# Altium schematic symbol library S7CAS_Lib2017.SchLib: 108 symbols (part 1 of 2)
Pins are listed as number, name and electrical type; pins without a type are passive.

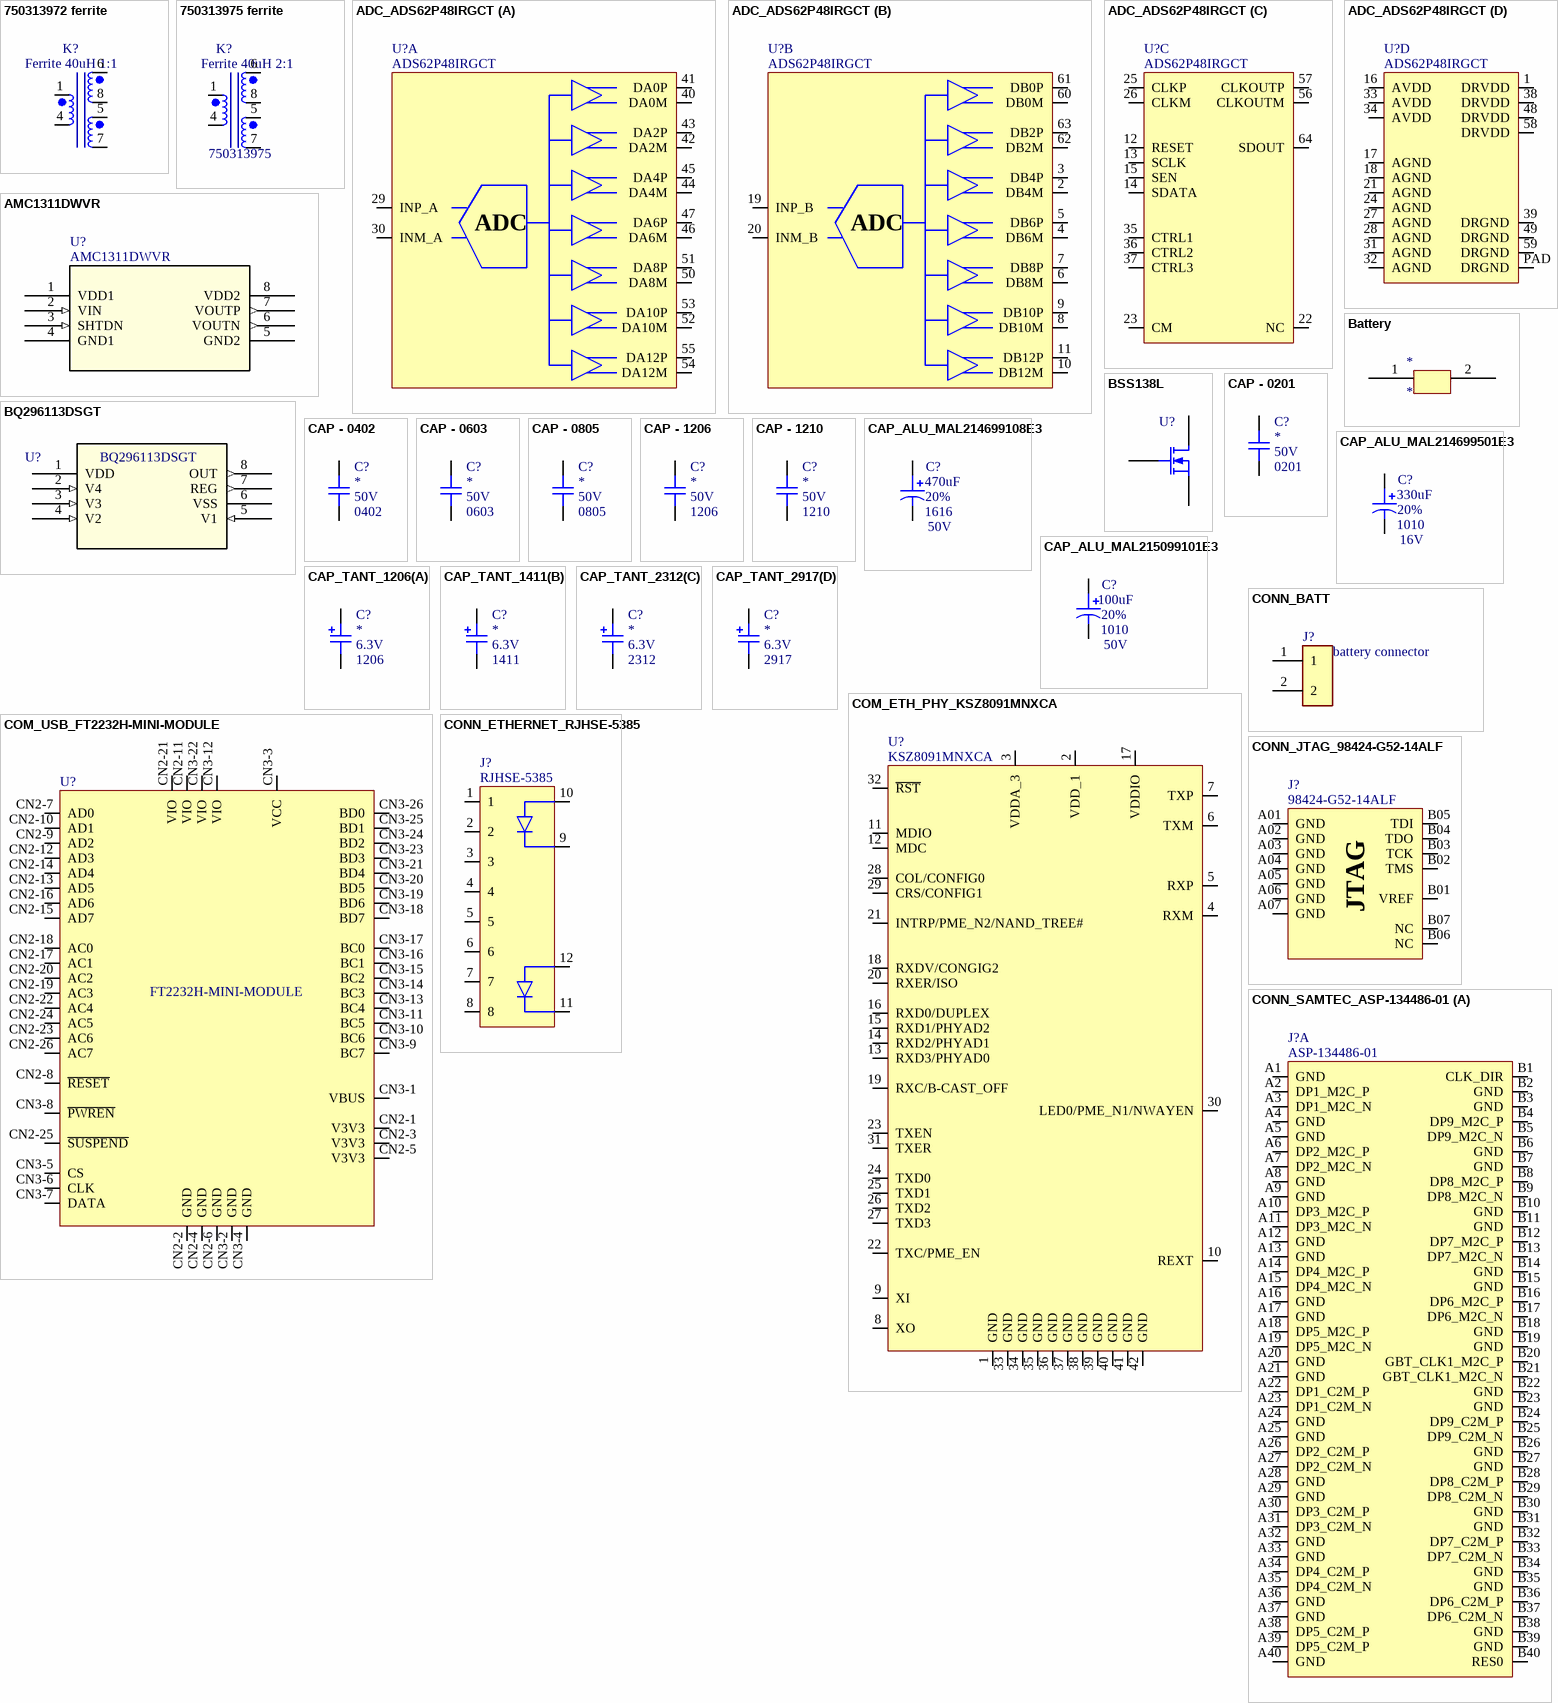
[diagram p0: symbols 750313972 ferrite to CONN_SAMTEC_ASP-134486-01]

## 750313972 ferrite
designator K?, comment value Ferrite 40uH 1:1  (hidden comment: 750313972)
Flyback Converters For For DC/DC Converters SMPS Transformer 1500Vrms Isolation 200 ~ 300kHz Surface Mount; Current: 1A; Voltage: *; Mfg Part Number: 750313972; CreatedBy: Laurent Colas; Power: *; Precision: *; Package: 1206; Supplier Part Number: 1297-1139-2-ND
footprint 750313972_SMD_H_8PIN
pins: 1, 4, 5, 6, 7, 8

## 750313975 ferrite
designator K?, comment 750313975  value Ferrite 40uH 2:1
Flyback Converters For For DC/DC Converters SMPS Transformer 1500Vrms Isolation 200 ~ 300kHz Surface Mount; Current: 1A; Voltage: *; Mfg Part Number: 750313975; CreatedBy: Laurent Colas; Power: *; Precision: *; Package: 1206; Supplier Part Number: 1297-1139-2-ND
footprint 750313972_SMD_H_8PIN
pins: 1, 4, 5, 6, 7, 8

## ADC_ADS62P48IRGCT
designator U?, comment ADS62P48IRGCT
ADC - 14 BIT 210MSPS SUAL - VQFN-64; Voltage: 3.15 V ~ 3.6 V / 1.7 V ~ 1.9 V; Mfg: Texas Instruments; Precision: 14 Bit; Current: *; Power: *; Mfg Part Number: ADS62P48IRGCT; HelpURL: http://www.ti.com/lit/ds/symlink/ads62p48.pdf; CreatedBy: Jonathan Bouchard; Temperature: -40°C ~ 85°C; Value: *; Package: VQFN-64; Supplier 1: Digikey; Supplier Part Number 1: 296-24611-1-ND
footprint ADC_ADS62P48IRGCT (QFN, 64-Leads, Body 9,00x9,00mm, Pitch 0,50mm, Thermal Pad 7,40x7,40mm, IPC Medium Density)
part A pins: 29 INP_A, 30 INM_A, 40 DA0M, 41 DA0P, 42 DA2M, 43 DA2P, 44 DA4M, 45 DA4P, 46 DA6M, 47 DA6P, 50 DA8M, 51 DA8P, 52 DA10M, 53 DA10P, 54 DA12M, 55 DA12P
part B pins: 2 DB4M, 3 DB4P, 4 DB6M, 5 DB6P, 6 DB8M, 7 DB8P, 8 DB10M, 9 DB10P, 10 DB12M, 11 DB12P, 19 INP_B, 20 INM_B, 60 DB0M, 61 DB0P, 62 DB2M, 63 DB2P
part C pins: 12 RESET, 13 SCLK, 14 SDATA, 15 SEN, 22 NC, 23 CM, 25 CLKP, 26 CLKM, 35 CTRL1, 36 CTRL2, 37 CTRL3, 56 CLKOUTM, 57 CLKOUTP, 64 SDOUT
part D pins: 1 DRVDD, 16 AVDD, 17 AGND, 18 AGND, 21 AGND, 24 AGND, 27 AGND, 28 AGND, 31 AGND, 32 AGND, 33 AVDD, 34 AVDD, 38 DRVDD, 39 DRGND, 48 DRVDD, 49 DRGND, 58 DRVDD, 59 DRGND, PAD DRGND
part A text: ADC
part B text: ADC

## AMC1311DWVR
designator U?
IC ISOLATION 8SOIC; Vendor: Digikey; Value: OPAMP ISO; Mfg: TI; Manufacturer_Part_Number: AMC1311DWVR; Copyright: Copyright (C) 2018 Accelerated Designs. All rights reserved; Type: DEV; Mfg Part Number: AMC1311DWVR; HelpURL: http://www.ti.com/lit/ds/symlink/amc1311.pdf?HQS=TI-null-null-digikeymode-df-pf-null-wwe&ts=1589383740577; Created By: Laurent Colas; Package: 8-Pin SOIC; Supplier Part Number: 296-50939-2-ND
footprint DWV8-M
pins: 1 VDD1 (power), 2 VIN (in), 3 SHTDN (in), 4 GND1 (power), 5 GND2 (power), 6 VOUTN (out), 7 VOUTP (out), 8 VDD2 (power)

## Battery
designator *
footprint battery-3.7V-1200mAh (adafruit batery)
pins: 1, 2

## BQ296113DSGT
designator U?
Battery Battery Protection IC Lithium-Ion 8-WSON (2x2); Vendor: Texas Instruments; Built_By: EMA_Jessica; Manufacturer_Part_Number: BQ296113DSGT; Copyright: Copyright (C) 2018 Accelerated Designs. All rights reserved; RefDes: RefDes; Type: DEV; HelpURL: http://www.ti.com/lit/ds/symlink/bq2961.pdf?HQS=TI-null-null-digikeymode-df-pf-null-wwe&ts=1591106844061; SupplierPartNumber: 296-43984-2-ND
footprint DSG8
pins: 1 VDD (power), 2 V4 (in), 3 V3 (in), 4 V2 (in), 5 V1 (in), 6 VSS (power), 7 REG (out), 8 OUT (out)

## BSS138L
designator U?  (value not drawn)
MOSFET N-CH 50V 200MA SOT-23; Value: MOSFET NMOS; GRAMS Lib Spec: 2.7; HelpURL: https://www.onsemi.com/pub/Collateral/BSS138LT1-D.PDF; CreatedBy/Date: Laurent Colas; Package: SOT23-3; Supplier 1: Digikey; Supplier Part Number: BSS138LT3GOSTR-ND; Mfg Part Number: BSS138L
footprint SOT23-3
pins: 1 G, 2 S, 3 D

## CAP - 0201
designator C?  Voltage: 50V  Package: 0201  (hidden comment: CAP - 0201)
Precision: 10%; Current: *; CreatedBy: Jonathan Bouchard; Power: *; Value: *
footprint CAP_0201
pins: 1, 2

## CAP - 0402
designator C?  Voltage: 50V  Package: 0402  (hidden comment: CAP - 0402)
Precision: 10%; Current: *; CreatedBy: Jonathan Bouchard; Power: *; Value: *
footprint CAP_0402
pins: 1, 2

## CAP - 0603
designator C?  Voltage: 50V  Package: 0603  (hidden comment: CAP - 0603)
Precision: 10%; Current: *; CreatedBy: Jonathan Bouchard; Power: *; Value: *
footprint CAP_0603
pins: 1, 2

## CAP - 0805
designator C?  Voltage: 50V  Package: 0805  (hidden comment: CAP - 0805)
Precision: 10%; Current: *; CreatedBy: Jonathan Bouchard; Power: *; Value: *
footprint CAP_0805
pins: 1, 2

## CAP - 1206
designator C?  Voltage: 50V  Package: 1206  (hidden comment: CAP - 1206)
Precision: 10%; Current: *; CreatedBy: Jonathan Bouchard; Power: *; Value: *
footprint CAP_1206
pins: 1, 2

## CAP - 1210
designator C?  Voltage: 50V  Package: 1210  (hidden comment: CAP - 1210)
Precision: 10%; Current: *; CreatedBy: Jonathan Bouchard; Power: *; Value: *
footprint CAP_1210
pins: 1, 2

## CAP_ALU_MAL214699108E3
designator C?, comment value 470uF  Voltage: 50V  Package: 1616  Precision: 20%  (hidden comment: MAL214699108E3)
CAP - ALU 470uF 20% 50V - 1616; Current: 1.3A; Mfg: Vishay Dale; Mfg Part Number: MAL214699108E3; HelpURL: http://www.vishay.com/docs/28403/146cti.pdf; CreatedBy: Jonathan Bouchard; Temperature: -55°C to 125°C; Power: *; Supplier 1: Digikey; Supplier Part Number 1: 4442PHCT-ND
footprint CAP_ALU_1616_vishay
pins: 1, 2

## CAP_ALU_MAL214699501E3
designator C?, comment value 330uF  Voltage: 16V  Package: 1010  Precision: 20%  (hidden comment: MAL214699501E3)
CAP - ALU 330uF 20% 16V - 1010; Current: 750mA; Mfg: Vishay Dale; Mfg Part Number: MAL214699501E3; HelpURL: http://www.vishay.com/docs/28403/146cti.pdf; CreatedBy: Jonathan Bouchard; Temperature: -55°C to 125°C; Power: *; Supplier 1: Digikey; Supplier Part Number 1: 4405PHCT-ND
footprint CAP_ALU_1010_vishay
pins: 1, 2

## CAP_ALU_MAL215099101E3
designator C?, comment value 100uF  Voltage: 50V  Package: 1010  Precision: 20%  (hidden comment: MAL215099101E3)
CAP - ALU 100uF 20% 50V - 1010; Current: 490mA; Mfg: Vishay Dale; Mfg Part Number: MAL215099101E3; HelpURL: http://www.vishay.com/docs/28395/150crz.pdf; CreatedBy: Jonathan Bouchard; Temperature: -55°C to 125°C; Power: *; Supplier 1: Digikey; Supplier Part Number 1: 4399PHDKR-ND
footprint CAP_ALU_1010_vishay
pins: 1, 2

## CAP_TANT_1206(A)
designator C?, comment Voltage: 6.3V  Package: 1206  (hidden comment: CAP - TANTALUM - CASE A)
CAP - TANTALUM - 1206; Precision: 10%; Current: *; CreatedBy: Jonathan Bouchard; Power: *; Value: *
footprint CAP_TAN_1206(A)
pins: 1, 2

## CAP_TANT_1411(B)
designator C?, comment Voltage: 6.3V  Package: 1411  (hidden comment: CAP - TANTALUM - CASE B)
CAP - TANTALUM - 1411; Precision: 10%; Current: *; CreatedBy: Jonathan Bouchard; Power: *; Value: *
footprint CAP_TAN_1411(B)
pins: 1, 2

## CAP_TANT_2312(C)
designator C?, comment Voltage: 6.3V  Package: 2312  (hidden comment: CAP - TANTALUM - CASE C)
CAP - TANTALUM - 2312; Precision: 10%; Current: *; CreatedBy: Jonathan Bouchard; Power: *; Value: *
footprint CAP_TAN_2312(C)
pins: 1, 2

## CAP_TANT_2917(D)
designator C?, comment Voltage: 6.3V  Package: 2917  (hidden comment: CAP - TANTALUM - CASE D)
CAP - TANTALUM - 2917; Precision: 10%; Current: *; CreatedBy: Jonathan Bouchard; Power: *; Value: *
footprint CAP_TAN_2917(D)
pins: 1, 2

## COM_ETH_PHY_KSZ8091MNXCA
designator U?, comment KSZ8091MNXCA
COM - ETHERNET PHY 10/100 - QFN-32; Voltage: 1.8V, 2.5V, 3.3V; Mfg: Micrel; Current: *; Power: *; Mfg Part Number: KSZ8091MNXCA; HelpURL: http://ww1.microchip.com/downloads/en/DeviceDoc/00002275A.pdf; CreatedBy: Jonathan Bouchard; Temperature: 0°C ~ 70°C; Value: *; Precision: *; Package: QFN-32; Supplier 1: Digikey; Supplier Part Number 1: 576-4356-ND
footprint COM_ETH_PHY_KSZ8091MNXCA
pins: 1 GND, 2 VDD_1 (power), 3 VDDA_3 (power), 4 RXM, 5 RXP, 6 TXM, 7 TXP, 8 XO, 9 XI, 10 REXT, 11 MDIO, 12 MDC, 13 RXD3/PHYAD0, 14 RXD2/PHYAD1, 15 RXD1/PHYAD2, 16 RXD0/DUPLEX, 17 VDDIO (power), 18 RXDV/CONGIG2, 19 RXC/B-CAST_OFF, 20 RXER/ISO, 21 INTRP/PME_N2/NAND_TREE#, 22 TXC/PME_EN, 23 TXEN, 24 TXD0, 25 TXD1, 26 TXD2, 27 TXD3, 28 COL/CONFIG0, 29 CRS/CONFIG1, 30 LED0/PME_N1/NWAYEN, 31 TXER, 32 ~{RST}, 33 GND, 34 GND, 35 GND, 36 GND, 37 GND, 38 GND, 39 GND, 40 GND, 41 GND, 42 GND

## COM_USB_FT2232H-MINI-MODULE
designator U?, comment FT2232H-MINI-MODULE
COM - USB FTDI FT2232H Mini-Module - TH; Mfg: Micrel; Voltage: *; Current: *; Power: *; Mfg Part Number: FT2232H-MINI-MODULE; HelpURL: http://www.ftdichip.com/Support/Documents/DataSheets/Modules/DS_FT2232H_Mini_Module.pdf; CreatedBy: Jonathan Bouchard; Temperature: *; Value: *; Precision: *; Package: TH; Supplier 1: Digikey; Supplier Part Number 1: 768-1030-ND
footprint COM_USB_FT2232H-MINI-MODULE
pins: CN2-1 V3V3 (power), CN2-2 GND, CN2-3 V3V3 (power), CN2-4 GND, CN2-5 V3V3 (power), CN2-6 GND, CN2-7 AD0, CN2-8 ~{RESET}, CN2-9 AD2, CN2-10 AD1, CN2-11 VIO, CN2-12 AD3, CN2-13 AD5, CN2-14 AD4, CN2-15 AD7, CN2-16 AD6, CN2-17 AC1, CN2-18 AC0, CN2-19 AC3, CN2-20 AC2, CN2-21 VIO, CN2-22 AC4, CN2-23 AC6, CN2-24 AC5, CN2-25 ~{SUSPEND}, CN2-26 AC7, CN3-1 VBUS, CN3-2 GND, CN3-3 VCC (power), CN3-4 GND, CN3-5 CS, CN3-6 CLK, CN3-7 DATA, CN3-8 ~{PWREN}, CN3-9 BC7, CN3-10 BC6, CN3-11 BC5, CN3-12 VIO, CN3-13 BC4, CN3-14 BC3, CN3-15 BC2, CN3-16 BC1, CN3-17 BC0, CN3-18 BD7, CN3-19 BD6, CN3-20 BD5, CN3-21 BD4, CN3-22 VIO, CN3-23 BD3, CN3-24 BD2, CN3-25 BD1, CN3-26 BD0

## CONN_BATT
designator J?, comment battery connector
surface mount battery connector; MP: 1935161; MF: Phoenix Contact; Value: Term bloc 2pos; SnapEDA_Link: https://www.snapeda.com/parts/1935161/Phoenix%20Contact/view-part/423515/?ref=snap; Digi-Key_Purchase_URL: https://www.digikey.ca/product-detail/en/phoenix-contact/1935161/277-1667-ND/568614?utm_source=snapeda&utm_medium=aggregator&utm_campaign=symbol; Digi-Key_Part_Number: 277-1667-ND; Package: None; HelpURL: https://media.digikey.com/pdf/Data%20Sheets/Phoenix%20Contact%20PDFs/1935161.pdf; Supplier Part Number: 277-1667-ND; Mfg Part Number: 1935161
footprint Battery connector (adafruit batery connector)
pins: 1, 2

## CONN_ETHERNET_RJHSE-5385
designator J?, comment RJHSE-5385
CONN - MOD JACK RJ45 R/A ETHERNET - TH; Mfg: Amphenol; Voltage: *; Current: *; Power: *; Mfg Part Number: RJHSE-5385; HelpURL: https://www.amphenolcanada.com/ProductSearch/drawings/AC/RJHSE538X.pdf; CreatedBy: Jonathan Bouchard; Temperature: -55°C ~ 85°C; Value: *; Precision: *; Package: TH-12; Supplier 1: Digikey; Supplier Part Number 1: RJHSE-5385-ND
footprint CONN_ETHERNET_RJHSE-5385 (Ethernet connector with LEDs)
pins: 1, 2, 3, 4, 5, 6, 7, 8, 9 LED1_K, 10 LED1_A, 11 LED2_K, 12 LED2_A

## CONN_JTAG_98424-G52-14ALF
designator J?, comment 98424-G52-14ALF
CONN -  JTAG HEADER XILINX - 14-SMD; Mfg: Amphenol; Voltage: *; Current: *; Power: *; Mfg Part Number: 98424-G52-14ALF; HelpURL: http://portal.fciconnect.com/Comergent//fci/drawing/98424.pdf; CreatedBy: Jonathan Bouchard; Temperature: *; Value: *; Precision: *; Package: 14-SMD; Supplier 1: Digikey; Supplier Part Number 1: 609-2643-1-ND
footprint CON_JTAG_98424-G52-14ALF
pins: A01 GND, A02 GND, A03 GND, A04 GND, A05 GND, A06 GND, A07 GND, B01 VREF, B02 TMS, B03 TCK, B04 TDO, B05 TDI, B06 NC, B07 NC
text: JTAG

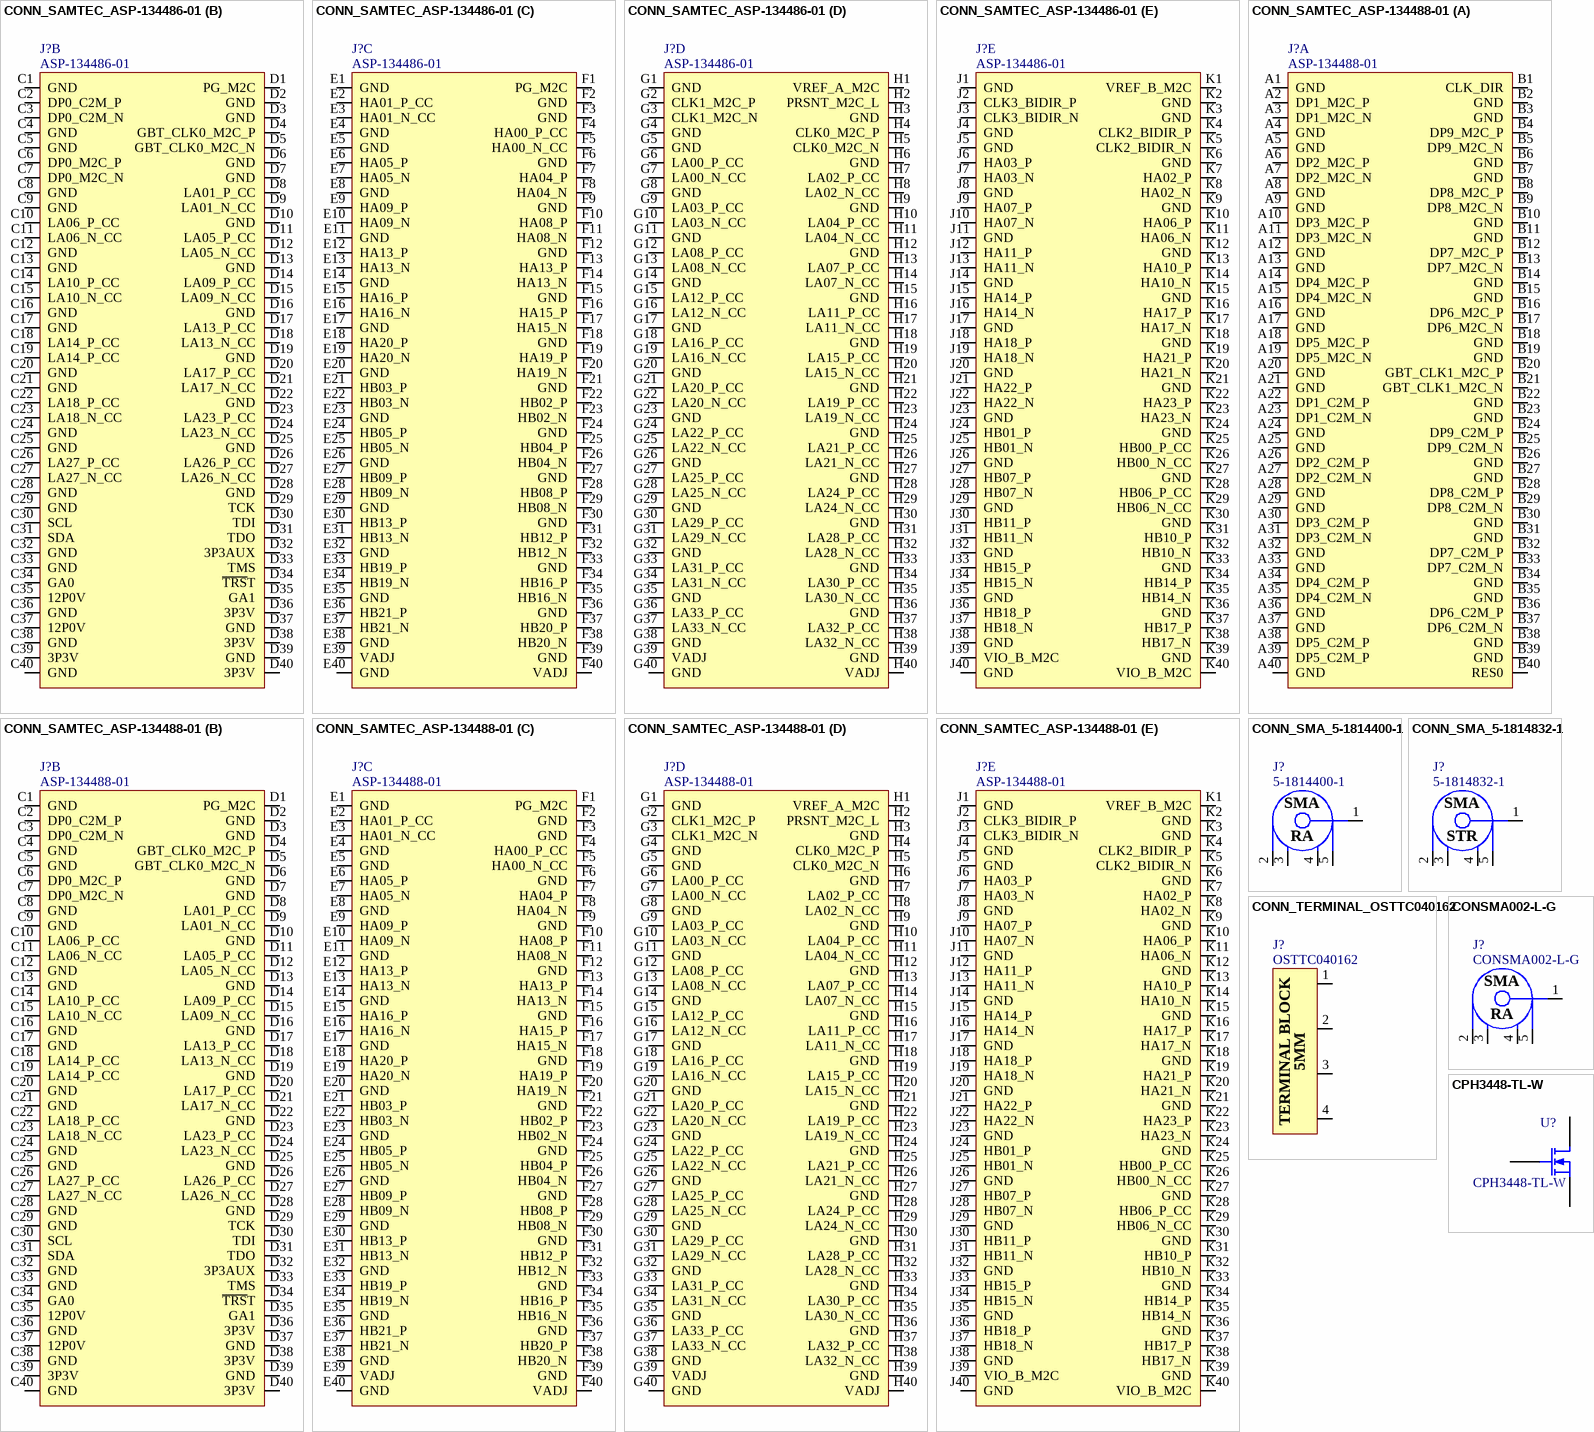
[diagram p1: symbols CONN_SAMTEC_ASP-134486-01 to CPH3448-TL-W]

## CONN_SAMTEC_ASP-134486-01
designator J?, comment ASP-134486-01
CONN - VITA 57 MEZZ FEMALE (MOTHERBOARD) HIGH DENSITY - SMD-400; Voltage: 240VAC; Current: 1.8A; Mfg: Samtec; Power: *; Mfg Part Number: ASP-134486-01; HelpURL: http://suddendocs.samtec.com/prints/asp-134486-01-mkt.pdf; CreatedBy: Jonathan Bouchard; Temperature: -55 °C to +125 °C; Value: *; Precision: *; Package: SMD-400
footprint CONN_SAMTEC_ASP-134486-01 (Connector VITA 57, 400 Female contacts in 10 row abcdefghj)
part A pins: A1 GND, A2 DP1_M2C_P, A3 DP1_M2C_N, A4 GND, A5 GND, A6 DP2_M2C_P, A7 DP2_M2C_N, A8 GND, A9 GND, A10 DP3_M2C_P, A11 DP3_M2C_N, A12 GND, A13 GND, A14 DP4_M2C_P, A15 DP4_M2C_N, A16 GND, A17 GND, A18 DP5_M2C_P, A19 DP5_M2C_N, A20 GND, A21 GND, A22 DP1_C2M_P, A23 DP1_C2M_N, A24 GND, A25 GND, A26 DP2_C2M_P, A27 DP2_C2M_N, A28 GND, A29 GND, A30 DP3_C2M_P, A31 DP3_C2M_N, A32 GND, A33 GND, A34 DP4_C2M_P, A35 DP4_C2M_N, A36 GND, A37 GND, A38 DP5_C2M_P, A39 DP5_C2M_P, A40 GND, B1 CLK_DIR, B2 GND, B3 GND, B4 DP9_M2C_P, B5 DP9_M2C_N, B6 GND, B7 GND, B8 DP8_M2C_P, B9 DP8_M2C_N, B10 GND, B11 GND, B12 DP7_M2C_P, B13 DP7_M2C_N, B14 GND, B15 GND, B16 DP6_M2C_P, B17 DP6_M2C_N, B18 GND, B19 GND, B20 GBT_CLK1_M2C_P, B21 GBT_CLK1_M2C_N, B22 GND, B23 GND, B24 DP9_C2M_P, B25 DP9_C2M_N, B26 GND, B27 GND, B28 DP8_C2M_P, B29 DP8_C2M_N, B30 GND, B31 GND, B32 DP7_C2M_P, B33 DP7_C2M_N, B34 GND, B35 GND, B36 DP6_C2M_P, B37 DP6_C2M_N, B38 GND, B39 GND, B40 RES0
part B pins: C1 GND, C2 DP0_C2M_P, C3 DP0_C2M_N, C4 GND, C5 GND, C6 DP0_M2C_P, C7 DP0_M2C_N, C8 GND, C9 GND, C10 LA06_P_CC, C11 LA06_N_CC, C12 GND, C13 GND, C14 LA10_P_CC, C15 LA10_N_CC, C16 GND, C17 GND, C18 LA14_P_CC, C19 LA14_P_CC, C20 GND, C21 GND, C22 LA18_P_CC, C23 LA18_N_CC, C24 GND, C25 GND, C26 LA27_P_CC, C27 LA27_N_CC, C28 GND, C29 GND, C30 SCL, C31 SDA, C32 GND, C33 GND, C34 GA0, C35 12P0V, C36 GND, C37 12P0V, C38 GND, C39 3P3V, C40 GND, D1 PG_M2C, D2 GND, D3 GND, D4 GBT_CLK0_M2C_P, D5 GBT_CLK0_M2C_N, D6 GND, D7 GND, D8 LA01_P_CC, D9 LA01_N_CC, D10 GND, D11 LA05_P_CC, D12 LA05_N_CC, D13 GND, D14 LA09_P_CC, D15 LA09_N_CC, D16 GND, D17 LA13_P_CC, D18 LA13_N_CC, D19 GND, D20 LA17_P_CC, D21 LA17_N_CC, D22 GND, D23 LA23_P_CC, D24 LA23_N_CC, D25 GND, D26 LA26_P_CC, D27 LA26_N_CC, D28 GND, D29 TCK, D30 TDI, D31 TDO, D32 3P3AUX, D33 TMS, D34 ~{TRS}T, D35 GA1, D36 3P3V, D37 GND, D38 3P3V, D39 GND, D40 3P3V
part C pins: E1 GND, E2 HA01_P_CC, E3 HA01_N_CC, E4 GND, E5 GND, E6 HA05_P, E7 HA05_N, E8 GND, E9 HA09_P, E10 HA09_N, E11 GND, E12 HA13_P, E13 HA13_N, E14 GND, E15 HA16_P, E16 HA16_N, E17 GND, E18 HA20_P, E19 HA20_N, E20 GND, E21 HB03_P, E22 HB03_N, E23 GND, E24 HB05_P, E25 HB05_N, E26 GND, E27 HB09_P, E28 HB09_N, E29 GND, E30 HB13_P, E31 HB13_N, E32 GND, E33 HB19_P, E34 HB19_N, E35 GND, E36 HB21_P, E37 HB21_N, E38 GND, E39 VADJ, E40 GND, F1 PG_M2C, F2 GND, F3 GND, F4 HA00_P_CC, F5 HA00_N_CC, F6 GND, F7 HA04_P, F8 HA04_N, F9 GND, F10 HA08_P, F11 HA08_N, F12 GND, F13 HA13_P, F14 HA13_N, F15 GND, F16 HA15_P, F17 HA15_N, F18 GND, F19 HA19_P, F20 HA19_N, F21 GND, F22 HB02_P, F23 HB02_N, F24 GND, F25 HB04_P, F26 HB04_N, F27 GND, F28 HB08_P, F29 HB08_N, F30 GND, F31 HB12_P, F32 HB12_N, F33 GND, F34 HB16_P, F35 HB16_N, F36 GND, F37 HB20_P, F38 HB20_N, F39 GND, F40 VADJ
part D pins: G1 GND, G2 CLK1_M2C_P, G3 CLK1_M2C_N, G4 GND, G5 GND, G6 LA00_P_CC, G7 LA00_N_CC, G8 GND, G9 LA03_P_CC, G10 LA03_N_CC, G11 GND, G12 LA08_P_CC, G13 LA08_N_CC, G14 GND, G15 LA12_P_CC, G16 LA12_N_CC, G17 GND, G18 LA16_P_CC, G19 LA16_N_CC, G20 GND, G21 LA20_P_CC, G22 LA20_N_CC, G23 GND, G24 LA22_P_CC, G25 LA22_N_CC, G26 GND, G27 LA25_P_CC, G28 LA25_N_CC, G29 GND, G30 LA29_P_CC, G31 LA29_N_CC, G32 GND, G33 LA31_P_CC, G34 LA31_N_CC, G35 GND, G36 LA33_P_CC, G37 LA33_N_CC, G38 GND, G39 VADJ, G40 GND, H1 VREF_A_M2C, H2 PRSNT_M2C_L, H3 GND, H4 CLK0_M2C_P, H5 CLK0_M2C_N, H6 GND, H7 LA02_P_CC, H8 LA02_N_CC, H9 GND, H10 LA04_P_CC, H11 LA04_N_CC, H12 GND, H13 LA07_P_CC, H14 LA07_N_CC, H15 GND, H16 LA11_P_CC, H17 LA11_N_CC, H18 GND, H19 LA15_P_CC, H20 LA15_N_CC, H21 GND, H22 LA19_P_CC, H23 LA19_N_CC, H24 GND, H25 LA21_P_CC, H26 LA21_N_CC, H27 GND, H28 LA24_P_CC, H29 LA24_N_CC, H30 GND, H31 LA28_P_CC, H32 LA28_N_CC, H33 GND, H34 LA30_P_CC, H35 LA30_N_CC, H36 GND, H37 LA32_P_CC, H38 LA32_N_CC, H39 GND, H40 VADJ
part E pins: J1 GND, J2 CLK3_BIDIR_P, J3 CLK3_BIDIR_N, J4 GND, J5 GND, J6 HA03_P, J7 HA03_N, J8 GND, J9 HA07_P, J10 HA07_N, J11 GND, J12 HA11_P, J13 HA11_N, J14 GND, J15 HA14_P, J16 HA14_N, J17 GND, J18 HA18_P, J19 HA18_N, J20 GND, J21 HA22_P, J22 HA22_N, J23 GND, J24 HB01_P, J25 HB01_N, J26 GND, J27 HB07_P, J28 HB07_N, J29 GND, J30 HB11_P, J31 HB11_N, J32 GND, J33 HB15_P, J34 HB15_N, J35 GND, J36 HB18_P, J37 HB18_N, J38 GND, J39 VIO_B_M2C, J40 GND, K1 VREF_B_M2C, K2 GND, K3 GND, K4 CLK2_BIDIR_P, K5 CLK2_BIDIR_N, K6 GND, K7 HA02_P, K8 HA02_N, K9 GND, K10 HA06_P, K11 HA06_N, K12 GND, K13 HA10_P, K14 HA10_N, K15 GND, K16 HA17_P, K17 HA17_N, K18 GND, K19 HA21_P, K20 HA21_N, K21 GND, K22 HA23_P, K23 HA23_N, K24 GND, K25 HB00_P_CC, K26 HB00_N_CC, K27 GND, K28 HB06_P_CC, K29 HB06_N_CC, K30 GND, K31 HB10_P, K32 HB10_N, K33 GND, K34 HB14_P, K35 HB14_N, K36 GND, K37 HB17_P, K38 HB17_N, K39 GND, K40 VIO_B_M2C

## CONN_SAMTEC_ASP-134488-01
designator J?, comment ASP-134488-01
CONN - VITA 57 MEZZ MALE (DAUGHTERBOARD) HIGH DENSITY - SMD-400; Voltage: 240VAC; Current: 1.8A; Mfg: Samtec; Power: *; Mfg Part Number: ASP-134488-01; HelpURL: http://suddendocs.samtec.com/prints/asp-134488-01-mkt.pdf; CreatedBy: Jonathan Bouchard; Temperature: -55 °C to +125 °C; Value: *; Precision: *; Package: SMD-400
footprint CONN_SAMTEC_ASP-134488-01 (Connector VITA 57, 400 Male contacts in 10 row abcdefghj)
part A pins: A1 GND, A2 DP1_M2C_P, A3 DP1_M2C_N, A4 GND, A5 GND, A6 DP2_M2C_P, A7 DP2_M2C_N, A8 GND, A9 GND, A10 DP3_M2C_P, A11 DP3_M2C_N, A12 GND, A13 GND, A14 DP4_M2C_P, A15 DP4_M2C_N, A16 GND, A17 GND, A18 DP5_M2C_P, A19 DP5_M2C_N, A20 GND, A21 GND, A22 DP1_C2M_P, A23 DP1_C2M_N, A24 GND, A25 GND, A26 DP2_C2M_P, A27 DP2_C2M_N, A28 GND, A29 GND, A30 DP3_C2M_P, A31 DP3_C2M_N, A32 GND, A33 GND, A34 DP4_C2M_P, A35 DP4_C2M_N, A36 GND, A37 GND, A38 DP5_C2M_P, A39 DP5_C2M_P, A40 GND, B1 CLK_DIR, B2 GND, B3 GND, B4 DP9_M2C_P, B5 DP9_M2C_N, B6 GND, B7 GND, B8 DP8_M2C_P, B9 DP8_M2C_N, B10 GND, B11 GND, B12 DP7_M2C_P, B13 DP7_M2C_N, B14 GND, B15 GND, B16 DP6_M2C_P, B17 DP6_M2C_N, B18 GND, B19 GND, B20 GBT_CLK1_M2C_P, B21 GBT_CLK1_M2C_N, B22 GND, B23 GND, B24 DP9_C2M_P, B25 DP9_C2M_N, B26 GND, B27 GND, B28 DP8_C2M_P, B29 DP8_C2M_N, B30 GND, B31 GND, B32 DP7_C2M_P, B33 DP7_C2M_N, B34 GND, B35 GND, B36 DP6_C2M_P, B37 DP6_C2M_N, B38 GND, B39 GND, B40 RES0
part B pins: C1 GND, C2 DP0_C2M_P, C3 DP0_C2M_N, C4 GND, C5 GND, C6 DP0_M2C_P, C7 DP0_M2C_N, C8 GND, C9 GND, C10 LA06_P_CC, C11 LA06_N_CC, C12 GND, C13 GND, C14 LA10_P_CC, C15 LA10_N_CC, C16 GND, C17 GND, C18 LA14_P_CC, C19 LA14_P_CC, C20 GND, C21 GND, C22 LA18_P_CC, C23 LA18_N_CC, C24 GND, C25 GND, C26 LA27_P_CC, C27 LA27_N_CC, C28 GND, C29 GND, C30 SCL, C31 SDA, C32 GND, C33 GND, C34 GA0, C35 12P0V, C36 GND, C37 12P0V, C38 GND, C39 3P3V, C40 GND, D1 PG_M2C, D2 GND, D3 GND, D4 GBT_CLK0_M2C_P, D5 GBT_CLK0_M2C_N, D6 GND, D7 GND, D8 LA01_P_CC, D9 LA01_N_CC, D10 GND, D11 LA05_P_CC, D12 LA05_N_CC, D13 GND, D14 LA09_P_CC, D15 LA09_N_CC, D16 GND, D17 LA13_P_CC, D18 LA13_N_CC, D19 GND, D20 LA17_P_CC, D21 LA17_N_CC, D22 GND, D23 LA23_P_CC, D24 LA23_N_CC, D25 GND, D26 LA26_P_CC, D27 LA26_N_CC, D28 GND, D29 TCK, D30 TDI, D31 TDO, D32 3P3AUX, D33 TMS, D34 ~{TRS}T, D35 GA1, D36 3P3V, D37 GND, D38 3P3V, D39 GND, D40 3P3V
part C pins: E1 GND, E2 HA01_P_CC, E3 HA01_N_CC, E4 GND, E5 GND, E6 HA05_P, E7 HA05_N, E8 GND, E9 HA09_P, E10 HA09_N, E11 GND, E12 HA13_P, E13 HA13_N, E14 GND, E15 HA16_P, E16 HA16_N, E17 GND, E18 HA20_P, E19 HA20_N, E20 GND, E21 HB03_P, E22 HB03_N, E23 GND, E24 HB05_P, E25 HB05_N, E26 GND, E27 HB09_P, E28 HB09_N, E29 GND, E30 HB13_P, E31 HB13_N, E32 GND, E33 HB19_P, E34 HB19_N, E35 GND, E36 HB21_P, E37 HB21_N, E38 GND, E39 VADJ, E40 GND, F1 PG_M2C, F2 GND, F3 GND, F4 HA00_P_CC, F5 HA00_N_CC, F6 GND, F7 HA04_P, F8 HA04_N, F9 GND, F10 HA08_P, F11 HA08_N, F12 GND, F13 HA13_P, F14 HA13_N, F15 GND, F16 HA15_P, F17 HA15_N, F18 GND, F19 HA19_P, F20 HA19_N, F21 GND, F22 HB02_P, F23 HB02_N, F24 GND, F25 HB04_P, F26 HB04_N, F27 GND, F28 HB08_P, F29 HB08_N, F30 GND, F31 HB12_P, F32 HB12_N, F33 GND, F34 HB16_P, F35 HB16_N, F36 GND, F37 HB20_P, F38 HB20_N, F39 GND, F40 VADJ
part D pins: G1 GND, G2 CLK1_M2C_P, G3 CLK1_M2C_N, G4 GND, G5 GND, G6 LA00_P_CC, G7 LA00_N_CC, G8 GND, G9 LA03_P_CC, G10 LA03_N_CC, G11 GND, G12 LA08_P_CC, G13 LA08_N_CC, G14 GND, G15 LA12_P_CC, G16 LA12_N_CC, G17 GND, G18 LA16_P_CC, G19 LA16_N_CC, G20 GND, G21 LA20_P_CC, G22 LA20_N_CC, G23 GND, G24 LA22_P_CC, G25 LA22_N_CC, G26 GND, G27 LA25_P_CC, G28 LA25_N_CC, G29 GND, G30 LA29_P_CC, G31 LA29_N_CC, G32 GND, G33 LA31_P_CC, G34 LA31_N_CC, G35 GND, G36 LA33_P_CC, G37 LA33_N_CC, G38 GND, G39 VADJ, G40 GND, H1 VREF_A_M2C, H2 PRSNT_M2C_L, H3 GND, H4 CLK0_M2C_P, H5 CLK0_M2C_N, H6 GND, H7 LA02_P_CC, H8 LA02_N_CC, H9 GND, H10 LA04_P_CC, H11 LA04_N_CC, H12 GND, H13 LA07_P_CC, H14 LA07_N_CC, H15 GND, H16 LA11_P_CC, H17 LA11_N_CC, H18 GND, H19 LA15_P_CC, H20 LA15_N_CC, H21 GND, H22 LA19_P_CC, H23 LA19_N_CC, H24 GND, H25 LA21_P_CC, H26 LA21_N_CC, H27 GND, H28 LA24_P_CC, H29 LA24_N_CC, H30 GND, H31 LA28_P_CC, H32 LA28_N_CC, H33 GND, H34 LA30_P_CC, H35 LA30_N_CC, H36 GND, H37 LA32_P_CC, H38 LA32_N_CC, H39 GND, H40 VADJ
part E pins: J1 GND, J2 CLK3_BIDIR_P, J3 CLK3_BIDIR_N, J4 GND, J5 GND, J6 HA03_P, J7 HA03_N, J8 GND, J9 HA07_P, J10 HA07_N, J11 GND, J12 HA11_P, J13 HA11_N, J14 GND, J15 HA14_P, J16 HA14_N, J17 GND, J18 HA18_P, J19 HA18_N, J20 GND, J21 HA22_P, J22 HA22_N, J23 GND, J24 HB01_P, J25 HB01_N, J26 GND, J27 HB07_P, J28 HB07_N, J29 GND, J30 HB11_P, J31 HB11_N, J32 GND, J33 HB15_P, J34 HB15_N, J35 GND, J36 HB18_P, J37 HB18_N, J38 GND, J39 VIO_B_M2C, J40 GND, K1 VREF_B_M2C, K2 GND, K3 GND, K4 CLK2_BIDIR_P, K5 CLK2_BIDIR_N, K6 GND, K7 HA02_P, K8 HA02_N, K9 GND, K10 HA06_P, K11 HA06_N, K12 GND, K13 HA10_P, K14 HA10_N, K15 GND, K16 HA17_P, K17 HA17_N, K18 GND, K19 HA21_P, K20 HA21_N, K21 GND, K22 HA23_P, K23 HA23_N, K24 GND, K25 HB00_P_CC, K26 HB00_N_CC, K27 GND, K28 HB06_P_CC, K29 HB06_N_CC, K30 GND, K31 HB10_P, K32 HB10_N, K33 GND, K34 HB14_P, K35 HB14_N, K36 GND, K37 HB17_P, K38 HB17_N, K39 GND, K40 VIO_B_M2C

## CONN_SMA_5-1814400-1
designator J?, comment 5-1814400-1
CONN -  SMA JACK R/A 50 OHM - TH; Mfg: TE Connectivity AMP Connectors; Voltage: *; Current: *; Power: *; Mfg Part Number: 5-1814400-1; HelpURL: http://www.te.com/commerce/DocumentDelivery/DDEController?Action=srchrtrv&DocNm=1814400&DocType=Customer+Drawing&DocLang=English; CreatedBy: Jonathan Bouchard; Temperature: -55°C ~ 85°C; Value: *; Precision: *; Package: TH-5; Supplier 1: Digikey; Supplier Part Number 1: A97593-ND
footprint CONN_SMA_5-1814400-1 (SMA Right Angle Jack, 14.8x6.35x9.6mm)
pins: 1, 2, 3, 4, 5
text: SMA; RA

## CONN_SMA_5-1814832-1
designator J?, comment 5-1814832-1
CONN -  SMA JACK STR 50 OHM - TH; Mfg: TE Connectivity AMP Connectors; Voltage: *; Current: *; Power: *; Mfg Part Number: 5-1814832-1; HelpURL: http://www.te.com/commerce/DocumentDelivery/DDEController?Action=srchrtrv&DocNm=1814832&DocType=Customer+Drawing&DocLang=English; CreatedBy: Jonathan Bouchard; Temperature: -65°C ~ 165°C; Value: *; Precision: *; Package: TH-5; Supplier 1: Digikey; Supplier Part Number 1: A97594-ND
footprint CONN_SMA_5-1814832-1 (SMA Straight Jack, 6.35x6.35x9.5mm)
pins: 1, 2, 3, 4, 5
text: SMA; STR

## CONN_TERMINAL_OSTTC040162
designator J?, comment OSTTC040162
CONN -  TERMINAL BLOCK 4POS 5MM - TH; Mfg: On Shore Technology Inc.; Voltage: *; Current: *; Power: *; Mfg Part Number: OSTTC040162; HelpURL: http://www.on-shore.com/wp-content/uploads/2015/09/osttcxx0162.pdf; CreatedBy: Jonathan Bouchard; Temperature: -30°C ~ 105°C; Value: *; Precision: *; Package: TH-4; Supplier 1: Digikey; Supplier Part Number 1: ED2602-ND
footprint CONN_TERMINAL_OSTTA040161 (4-pins terminal block)
pins: 1, 2, 3, 4
text: TERMINAL BLOCK; 5MM

## CONSMA002-L-G
designator J?
CONN -  SMA JACK R/A 50 OHM - TH; Mfg Part Number: CONSMA002-L-G-ND; Mfg: Linx Technologies Inc.; Value: Connecteur SMA; Voltage: *; Current: *; Power: *; HelpURL: https://linxtechnologies.com/wp/wp-content/uploads/consma002-l-g.pdf; CreatedBy: Laurent Colas; Temperature: -55°C ~ 85°C; Precision: *; Package: TH-5; Supplier 1: Digikey; Supplier Part Number: A97593-ND
footprint CONSMA002-L-G-ND (SMA Right Angle Jack, 14.8x6.35x9.6mm)
pins: 1, 2, 3, 4, 5
text: SMA; RA

## CPH3448-TL-W
designator U?
N-Channel 30V 4A (Ta) 1W (Ta) Surface Mount 3-CPH; GRAMS Lib Spec: 2.7; HelpURL: https://www.onsemi.com/pub/Collateral/CPH3448-D.PDF; CreatedBy/Date: Laurent Colas; Package: 3-CPH; Supplier 1: Digikey; Supplier Part Number 1: BSS138LT3GOSTR-ND
footprint SOT95P240X110-3N
pins: 1 G, 2 S, 3 D

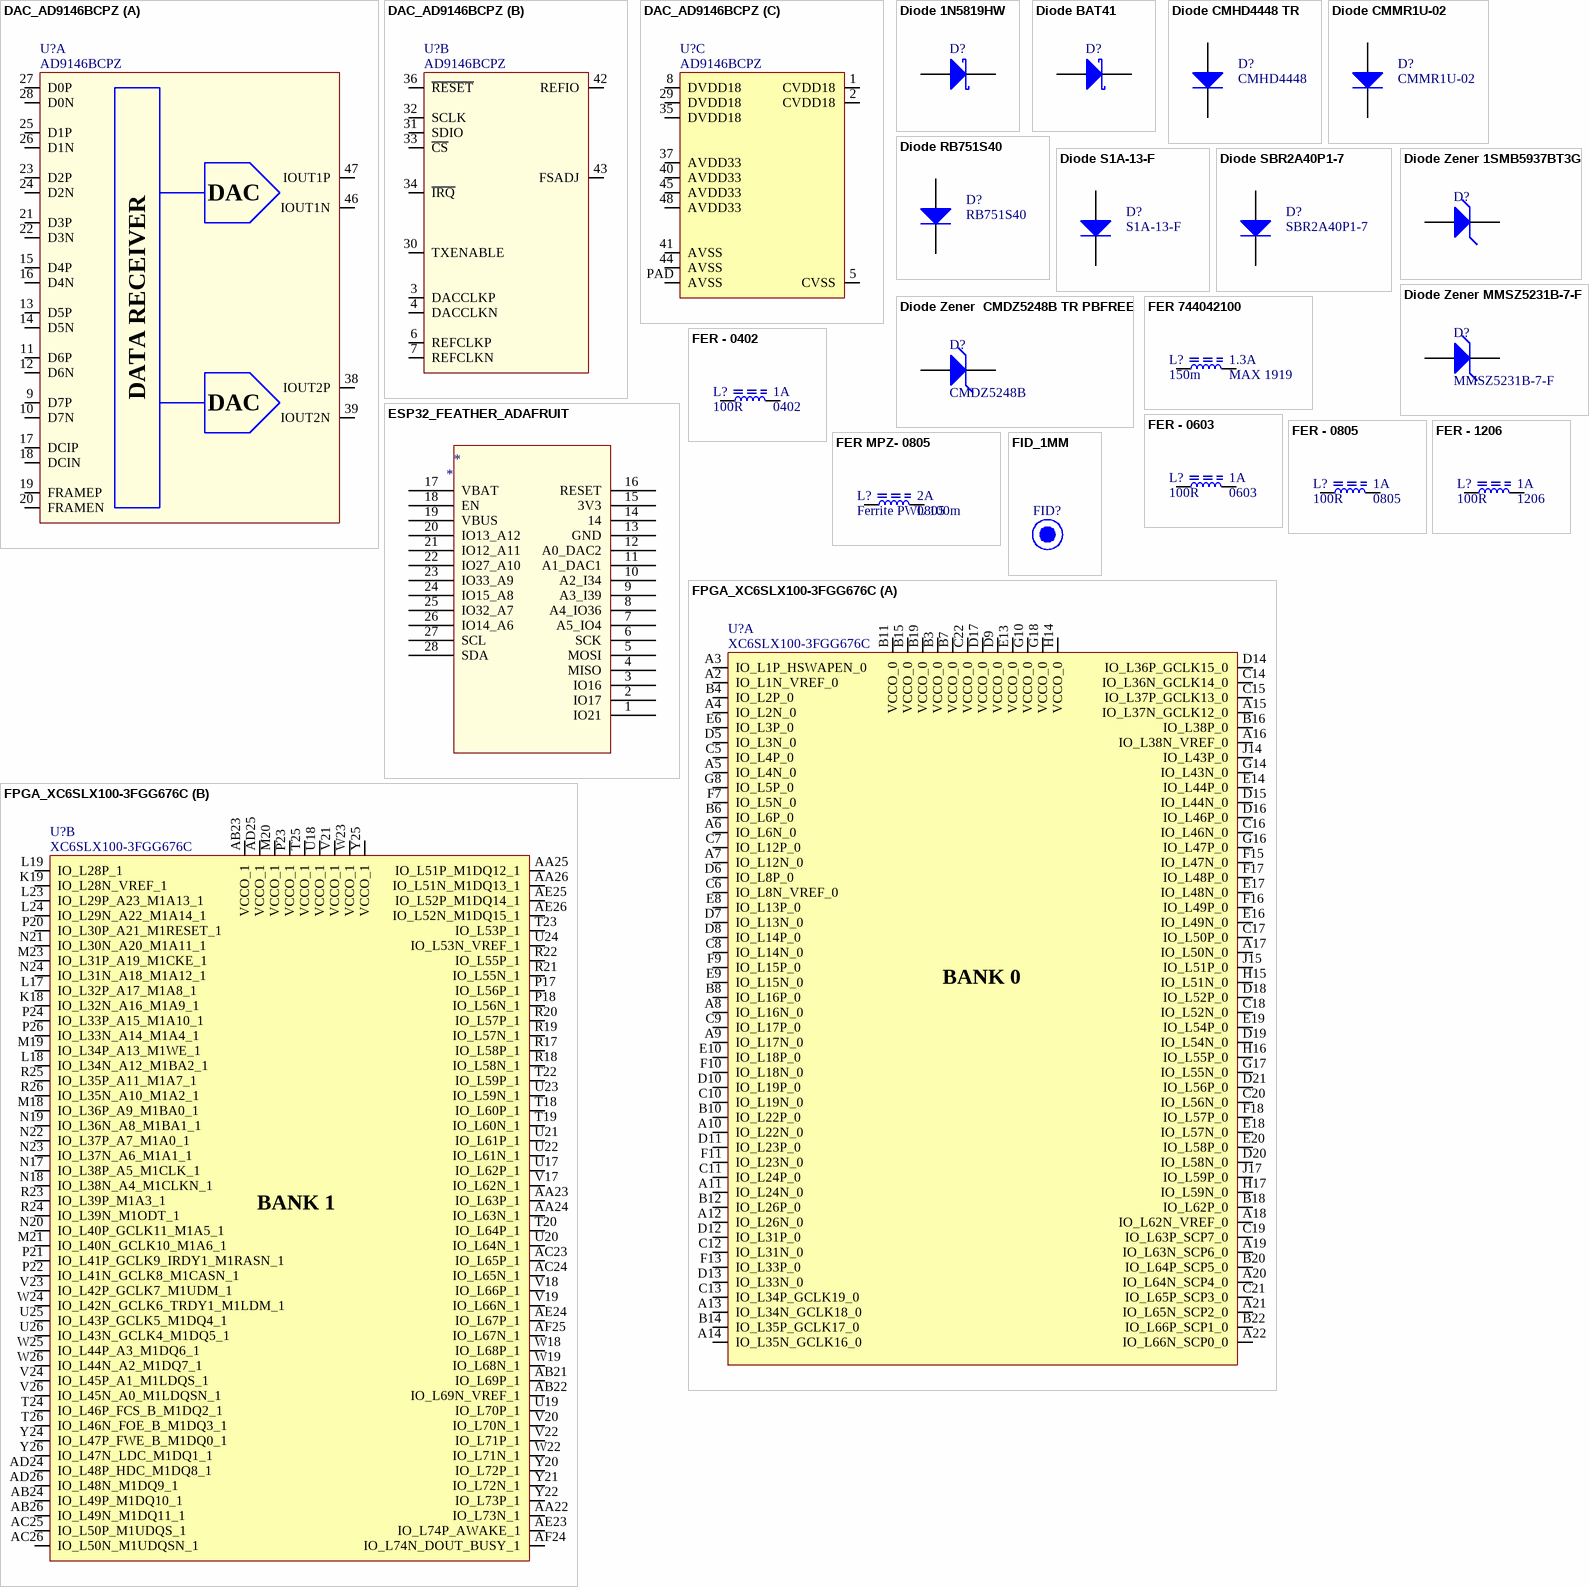
[diagram p2: symbols DAC_AD9146BCPZ to FPGA_XC6SLX100-3FGG676C]

## DAC_AD9146BCPZ
designator U?, comment AD9146BCPZ
DAC - 16BIT SRL HIGH SPEED - QFN-48; Voltage: 3.13 V ~ 3.47 V / 1.71 V ~ 1.89 V; Mfg: Analog Devices Inc.; Current: *; Power: *; Mfg Part Number: AD9146BCPZ; HelpURL: http://www.analog.com/media/en/technical-documentation/data-sheets/AD9146.PDF; CreatedBy: Jonathan Bouchard; Temperature: -40°C ~ 85°C; Value: *; Precision: 16 Bit; Package: QFN-48; Supplier 1: Digikey; Supplier Part Number 1: AD9146BCPZ-ND
footprint DAC_AD9146BCPZ (QFN, 48-Leads, Body 7x7mm, Pitch 0.5mm, Thermal Pad 5.6x5.6mm, IPC Medium Density)
part A pins: 9 D7P "Data Bit 7 (MSB), Positive.", 10 D7N "Data Bit 7 (MSB), Negative.", 11 D6P "Data Bit 6, Positive.", 12 D6N "Data Bit 6, Negative.", 13 D5P "Data Bit 5, Positive.", 14 D5N "Data Bit 5, Negative.", 15 D4P "Data Bit 4, Positive.", 16 D4N "Data Bit 4, Negative.", 17 DCIP "Data Clock Input, Positive.", 18 DCIN "Data Clock Input, Negative.", 19 FRAMEP "Frame Input, Positive.", 20 FRAMEN "Frame Input, Negative.", 21 D3P "Data Bit 3, Positive.", 22 D3N "Data Bit 3, Negative.", 23 D2P "Data Bit 2, Positive.", 24 D2N "Data Bit 2, Negative.", 25 D1P "Data Bit 1, Positive.", 26 D1N "Data Bit 1, Negative.", 27 D0P "Data Bit 0 (LSB), Positive.", 28 D0N "Data Bit 0 (LSB), Negative.", 38 IOUT2P "Q DAC Positive Current Output.", 39 IOUT2N "Q DAC Negative Current Output.", 46 IOUT1N "I DAC Negative Current Output.", 47 IOUT1P "I DAC Positive Current Output."
part B pins: 3 DACCLKP "DAC Clock Input, Positive.", 4 DACCLKN "DAC Clock Input, Negative.", 6 REFCLKP "PLL Reference Clock Input, Positive. This pin has a secondary function as a synchronization input.", 7 REFCLKN "PLL Reference Clock Input, Negative. This pin has a secondary function as a synchronization input.", 30 TXENABLE "Active High Transmit Path Enable (CMOS). A low level on this pin clamps the DAC outputs to midscale.", 31 SDIO "Serial Port Data Input/Output (CMOS).", 32 SCLK "Serial Port Clock Input (CMOS).", 33 ~{CS} "Serial Port Chip Select, Active Low (CMOS).", 34 ~{IRQ} "Interrupt Request. Open-drain, active low output. Pull this pin high external to the device.", 36 ~{RESET} "Reset, Active Low (CMOS).", 42 REFIO "1.2 V Band Gap Voltage Reference Output. Should be decoupled to AVSS with a 0.1 uF capacitor.", 43 FSADJ "Full-Scale Current Output Adjust. Place a 10 kO resistor from this pin to AVSS."
part C pins: 1 CVDD18 "1.8 V Clock Supply. Supplies clock receivers, clock distribution, and PLL circuitry.", 2 CVDD18 "1.8 V Clock Supply. Supplies clock receivers, clock distribution, and PLL circuitry.", 5 CVSS "Clock Supply Common.", 8 DVDD18 "1.8 V Digital Supply. Supplies power to digital core and digital data ports.", 29 DVDD18 "1.8 V Digital Supply. Supplies power to digital core and digital data ports.", 35 DVDD18 "1.8 V Digital Supply. Supplies power to digital core and digital data ports.", 37 AVDD33 "3.3 V Analog Supply.", 40 AVDD33 "3.3 V Analog Supply.", 41 AVSS "Analog Supply Common.", 44 AVSS "Analog Supply Common.", 45 AVDD33 "3.3 V Analog Supply.", 48 AVDD33 "3.3 V Analog Supply.", PAD AVSS "The exposed pad (EPAD) must be soldered to the ground plane (AVSS). The EPAD provides an electrical,thermal, and mechanical connection to the board."
part A text: DAC; DATA RECEIVER

## Diode 1N5819HW
designator D?
Diode Schottky 40V 1A Surface Mount SOD-123; Note: Pin 2 is not connected and not drawn.; Published: 21-Mar-2003; LatestRevisionDate: 29-May-2009; LatestRevisionNote: IPC-7351 Footprint Added.; DatasheetVersion: Oct-1999; PackageVersion: Sep-2001; PackageReference: SOT-23; Publisher: Altium Limited; PackageDescription: 3-Pin SOT-23 Package 0.95 mm Pitch, 2.5 mm Lead Span; ComponentLink1Description: Manufacturer Link; ComponentLink1URL: http://www.infineon.com/; ComponentLink2Description: Datasheet; ComponentLink2URL: http://www.infineon.com/upload/Document/cmc_upload/documents/009/363/bat17series.pdf
footprint SOD-123 (Schokty Diode - SOD-123)
pins: 1, 2

## Diode BAT41
designator D?
Diode Schottky 100V 200mA (DC) Surface Mount SOD-123; Note: Pin 2 is not connected and not drawn.; Published: 21-Mar-2003; LatestRevisionDate: 29-May-2009; LatestRevisionNote: IPC-7351 Footprint Added.; DatasheetVersion: Oct-1999; PackageVersion: Sep-2001; PackageReference: SOT-23; Publisher: Altium Limited; PackageDescription: 3-Pin SOT-23 Package 0.95 mm Pitch, 2.5 mm Lead Span; ComponentLink1Description: Manufacturer Link; ComponentLink1URL: http://www.infineon.com/; ComponentLink2Description: Datasheet; ComponentLink2URL: http://www.infineon.com/upload/Document/cmc_upload/documents/009/363/bat17series.pdf
footprint SOD-123 (Schokty Diode - SOD-123)
pins: 1, 2

## Diode CMHD4448 TR
designator D?, comment CMHD4448
Diode Standard 75V 250mA Surface Mount SOD-123; Mfg: Central Semiconductor; Power: 44mW; Voltage: 75V; Current: 250mA; HelpURL: https://my.centralsemi.com/datasheets/CMHD4448.PDF; CreatedBy: Laurent Colas; Temperature: -30°C to 85°C; Package: SOD−523; Precision: *; Mfg Part Number: CMHD4448; Supplier 1: Digikey; Supplier Part Number: CMHD4448TRPBFREEDKR-ND; Value: Diode Standard
footprint SOD-123 (Schokty Diode - SOD-123)
pins: 1, 2

## Diode CMMR1U-02
designator D?, comment CMMR1U-02
Diode Standard 200V 1A Surface Mount SOD-123F; Mfg Part Number: CMMR1U-02 TR PBFREE; Mfg: Central Semiconductor; Power: 44mW; Voltage: 200V; Current: 1A; CreatedBy: Laurent Colas; Temperature: -30°C to 85°C; Package: SOD−123F; Precision: *; Supplier 1: Digikey; Supplier Part Number: 1514-CMMR1U-02TRPBFREEDKR-ND; Value: Diode Standard; HelpURL: https://my.centralsemi.com/datasheets/CMMR1U_SERIES.PDF
footprint SOD-123 (Schokty Diode - SOD-123)
pins: 1, 2

## Diode RB751S40
designator D?, comment RB751S40
Schottky Barrier Diode; Voltage: 0.28V; Current: 1mA; Mfg: ON Semiconductor; Power: 44mW; Value: Diode Schottky; HelpURL: https://www.onsemi.cn/PowerSolutions/document/RB751S40T1-D.PDF; CreatedBy: Laurent Colas; Temperature: -30°C to 85°C; Package: SOD−523; Precision: *; Mfg Part Number: RB751S40; Supplier 1: Digikey; Supplier Part Number: RB751S40T1GOSTR-ND
footprint SOD-523 (Diode - Package SOD-523)
pins: 1, 2

## Diode S1A-13-F
designator D?, comment S1A-13-F
Diode Standard 50V 1A Surface Mount SMA; Mfg: Central Semiconductor; Power: 1W; Voltage: 50V; Current: 1A; CreatedBy: Laurent Colas; Temperature: -30°C to 85°C; Package: SMA; Precision: *; Supplier 1: Digikey; Supplier Part Number: S1A-FDITR-ND; Value: Diode Standard; HelpURL: https://www.diodes.com/assets/Datasheets/ds16003.pdf; Mfg Part Number: S1A-13-F
footprint SMA_DIO
pins: 1, 2

## Diode SBR2A40P1-7
designator D?, comment SBR2A40P1-7
Diode Super Barrier 40V 2A Surface Mount PowerDI™ 123 /; Mfg: Diodes Incorporated; Power: 1W; Value: Diode Standard; Voltage: 40V; Current: 2A; CreatedBy: Laurent Colas; Temperature: -30°C to 85°C; Package: SMA; Precision: *; Supplier 1: Digikey; Supplier Part Number: SBR2A40P1DITR-ND; HelpURL: https://www.diodes.com/assets/Datasheets/SBR2A40P1.pdf; Mfg Part Number: SBR2A40P1-7
footprint POWERDI 123 (Diode - PDI-123)
pins: 1, 2

## Diode Zener 1SMB5937BT3G
designator D?
Zener Diode 33V 550mW ±5% Surface Mount SMB; Note: Pin 2 is not connected and not drawn.; Published: 21-Mar-2003; LatestRevisionDate: 29-May-2009; LatestRevisionNote: IPC-7351 Footprint Added.; DatasheetVersion: Oct-1999; PackageVersion: Sep-2001; PackageReference: SOT-23; Publisher: Altium Limited; PackageDescription: 3-Pin SOT-23 Package 0.95 mm Pitch, 2.5 mm Lead Span; ComponentLink1Description: Manufacturer Link; ComponentLink1URL: http://www.infineon.com/; ComponentLink2Description: Datasheet; ComponentLink2URL: http://www.infineon.com/upload/Document/cmc_upload/documents/009/363/bat17series.pdf
footprint SMB-zener Diode (Zener Diode - SMB)
pins: 1, 2

## Diode Zener  CMDZ5248B TR PBFREE
designator D?, comment CMDZ5248B
Zener Diode 18V 250mW ±5% Surface Mount SOD-323; Mfg Part Number: CMDZ5248B TR PBFREE; Note: Pin 2 is not connected and not drawn.; Value: Diode Zener; Published: 21-Mar-2003; LatestRevisionDate: 29-May-2009; LatestRevisionNote: IPC-7351 Footprint Added.; DatasheetVersion: Oct-1999; PackageVersion: Sep-2001; PackageReference: SOT-23; Publisher: Altium Limited; PackageDescription: 3-Pin SOD-323 Package 0.95 mm Pitch, 2.5 mm Lead Span; ComponentLink1Description: Manufacturer Link; ComponentLink1URL: http://www.infineon.com/; ComponentLink2Description: Datasheet; ComponentLink2URL: http://www.infineon.com/upload/Document/cmc_upload/documents/009/363/bat17series.pdf; HelpURL: https://my.centralsemi.com/datasheets/CMDZ5221B-61B.PDF; Supplier Part Number: 1514-CMDZ5248BTRPBFREETR-ND
footprint SOD-323 (Zener Diode - SOD-323)
pins: 1, 2

## Diode Zener MMSZ5231B-7-F
designator D?, comment MMSZ5231B-7-F
Zener Diode 5.1V 500mW ±5% Surface Mount SOD-123; Note: Pin 2 is not connected and not drawn.; Published: 21-Mar-2003; LatestRevisionDate: 29-May-2009; LatestRevisionNote: IPC-7351 Footprint Added.; DatasheetVersion: Oct-1999; PackageVersion: Sep-2001; PackageReference: SOD-123; Publisher: Altium Limited; PackageDescription: SOD-123; ComponentLink1Description: Manufacturer Link; ComponentLink1URL: http://www.infineon.com/; ComponentLink2Description: Datasheet; ComponentLink2URL: http://www.infineon.com/upload/Document/cmc_upload/documents/009/363/bat17series.pdf; HelpURL: diodes.com/assets/Datasheets/ds18010.pdf
footprint SOD123_DIO
pins: 1, 2

## ESP32_FEATHER_ADAFRUIT
designator *
footprint ESP32_FEATHER (ESP32 board)
pins: 1 IO21, 2 IO17, 3 IO16, 4 MISO, 5 MOSI, 6 SCK, 7 A5_IO4, 8 A4_IO36, 9 A3_I39, 10 A2_I34, 11 A1_DAC1, 12 A0_DAC2, 13 GND, 14, 15 3V3, 16 RESET, 17 VBAT, 18 EN, 19 VBUS, 20 IO13_A12, 21 IO12_A11, 22 IO27_A10, 23 IO33_A9, 24 IO15_A8, 25 IO32_A7, 26 IO14_A6, 27 SCL, 28 SDA

## FER 744042100
designator L?, comment value 150m  Current: 1.3A  Package: MAX 1919  (hidden comment: FER 744042100 M1919)
10µH Shielded Wirewound Inductor 1.3A 150mOhm Max 1919 (4848 Metric); Voltage: *; Mfg Part Number: 744042100; HelpURL: https://www.we-online.de/katalog/datasheet/744042100.pdf; CreatedBy: Laurent Colas; Power: *; Precision: *; Supplier Part Number: 732-1025-2-ND
footprint Fixed ind 10uH MAX 1919 (Inductor 1uH non standard)
pins: 1, 2

## FER - 0402
designator L?  value 100R  Current: 1A  Package: 0402  (hidden comment: FER - 0402)
Voltage: *; CreatedBy: Jonathan Bouchard; Power: *; Precision: *
footprint FER_0402
pins: 1, 2

## FER - 0603
designator L?  value 100R  Current: 1A  Package: 0603  (hidden comment: FER - 0603)
Voltage: *; CreatedBy: Jonathan Bouchard; Power: *; Precision: *
footprint FER_0603
pins: 1, 2

## FER - 0805
designator L?  value 100R  Current: 1A  Package: 0805  (hidden comment: FER - 0805)
Voltage: *; CreatedBy: Jonathan Bouchard; Power: *; Precision: *
footprint FER_0805
pins: 1, 2

## FER - 1206
designator L?  value 100R  Current: 1A  Package: 1206  (hidden comment: FER - 1206)
Voltage: *; CreatedBy: Jonathan Bouchard; Power: *; Precision: *
footprint FER_1206
pins: 1, 2

## FER MPZ- 0805
designator L?  value Ferrite PWL 100m  Current: 2A  Package: 0805  (hidden comment: FER MPZ- 0805)
600 Ohms @ 100MHz 1 Power Line Ferrite Bead 0805 (2012 Metric) 2A 100mOhm; Mfg Part Number: MPZ2012S601AT000; Voltage: *; HelpURL: https://product.tdk.com/info/en/catalog/datasheets/beads_commercial_power_mpz2012_en.pdf; CreatedBy: Laurent Colas; Power: *; Precision: *; Supplier Part Number: 445-2206-2-ND
footprint FER_0805
pins: 1, 2

## FID_1MM
designator FID?, comment Fiducial 1mm  (value not drawn)  (no BOM)
FID - 1MM; Current: *; Mfg Part Number: *; HelpURL: *; CreatedBy: Jonathan Bouchard; VerifiedBy: Alexandre Imbeault; FootprintNameOK: Jonathan Bouchard; Temperature: *; Power: *; Precision: *; Value: *; Mfg: *; Package: *; Voltage: *
footprint FID_1MM (Fiducial 1mm diameter - Exposed 2mm)

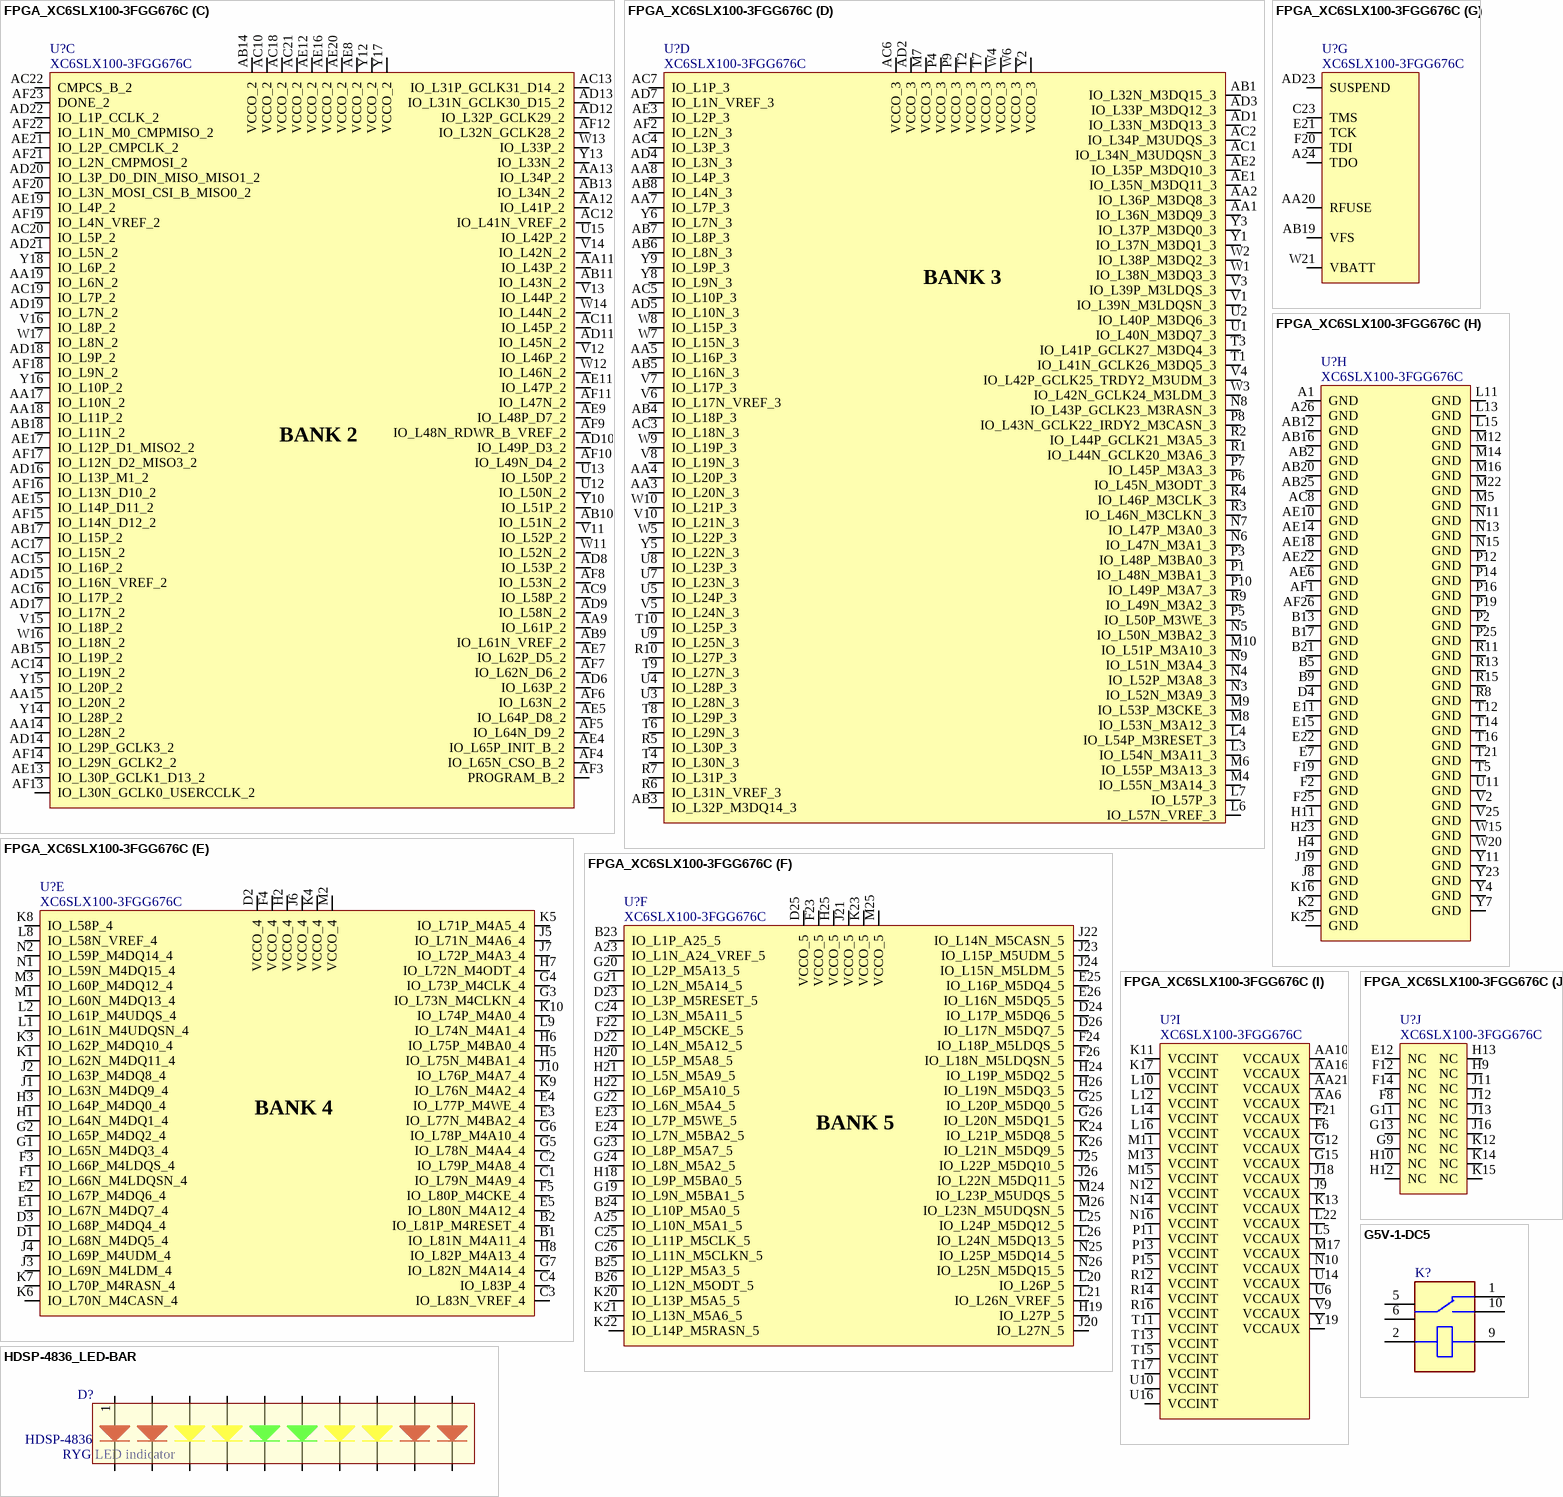
[diagram p3: symbols FPGA_XC6SLX100-3FGG676C to HDSP-4836_LED-BAR]

## FPGA_XC6SLX100-3FGG676C
designator U?, comment XC6SLX100-3FGG676C
FPGA - XILINX SPARTAN 6 480 I/O - BGA-676; Voltage: 1.14 V ~ 1.26 V; Current: *; Power: *; Mfg: Xilinx; Mfg Part Number: XC6SLX100-3FGG676C; HelpURL: https://www.xilinx.com/support/documentation/data_sheets/ds162.pdf; CreatedBy: Jonathan Bouchard; Temperature: 0°C ~ 85°C (TJ); Value: *; Precision: *; Package: BGA-676; Supplier 1: Digikey; Supplier Part Number 1: 122-1760-ND
footprint FPGA_XILINX_FGG676
part A pins: A2 IO_L1N_VREF_0, A3 IO_L1P_HSWAPEN_0, A4 IO_L2N_0, A5 IO_L4N_0, A6 IO_L6N_0, A7 IO_L12N_0, A8 IO_L16N_0, A9 IO_L17N_0, A10 IO_L22N_0, A11 IO_L24N_0, A12 IO_L26N_0, A13 IO_L34N_GCLK18_0, A14 IO_L35N_GCLK16_0, A15 IO_L37N_GCLK12_0, A16 IO_L38N_VREF_0, A17 IO_L50N_0, A18 IO_L62N_VREF_0, A19 IO_L63N_SCP6_0, A20 IO_L64N_SCP4_0, A21 IO_L65N_SCP2_0, A22 IO_L66N_SCP0_0, B3 VCCO_0, B4 IO_L2P_0, B6 IO_L6P_0, B7 VCCO_0, B8 IO_L16P_0, B10 IO_L22P_0, B11 VCCO_0, B12 IO_L26P_0, B14 IO_L35P_GCLK17_0, B15 VCCO_0, B16 IO_L38P_0, B18 IO_L62P_0, B19 VCCO_0, B20 IO_L64P_SCP5_0, B22 IO_L66P_SCP1_0, C5 IO_L4P_0, C6 IO_L8N_VREF_0, C7 IO_L12P_0, C8 IO_L14N_0, C9 IO_L17P_0, C10 IO_L19N_0, C11 IO_L24P_0, C12 IO_L31N_0, C13 IO_L34P_GCLK19_0, C14 IO_L36N_GCLK14_0, C15 IO_L37P_GCLK13_0, C16 IO_L46N_0, C17 IO_L50P_0, C18 IO_L52N_0, C19 IO_L63P_SCP7_0, C20 IO_L56N_0, C21 IO_L65P_SCP3_0, C22 VCCO_0, D5 IO_L3N_0, D6 IO_L8P_0, D7 IO_L13N_0, D8 IO_L14P_0, D9 VCCO_0, D10 IO_L19P_0, D11 IO_L23P_0, D12 IO_L31P_0, D13 IO_L33N_0, D14 IO_L36P_GCLK15_0, D15 IO_L44N_0, D16 IO_L46P_0, D17 VCCO_0, D18 IO_L52P_0, D19 IO_L54N_0, D20 IO_L58N_0, D21 IO_L56P_0, E6 IO_L3P_0, E8 IO_L13P_0, E9 IO_L15N_0, E10 IO_L18P_0, E13 VCCO_0, E14 IO_L44P_0, E16 IO_L49N_0, E17 IO_L48N_0, E18 IO_L57N_0, E19 IO_L54P_0, E20 IO_L58P_0, F7 IO_L5N_0, F9 IO_L15P_0, F10 IO_L18N_0, F11 IO_L23N_0, F13 IO_L33P_0, F15 IO_L47N_0, F16 IO_L49P_0, F17 IO_L48P_0, F18 IO_L57P_0, G8 IO_L5P_0, G10 VCCO_0, G14 IO_L43N_0, G16 IO_L47P_0, G17 IO_L55N_0, G18 VCCO_0, H14 VCCO_0, H15 IO_L51N_0, H16 IO_L55P_0, H17 IO_L59N_0, J14 IO_L43P_0, J15 IO_L51P_0, J17 IO_L59P_0
part B pins: AA22 IO_L73N_1, AA23 IO_L63P_1, AA24 IO_L63N_1, AA25 IO_L51P_M1DQ12_1, AA26 IO_L51N_M1DQ13_1, AB21 IO_L69P_1, AB22 IO_L69N_VREF_1, AB23 VCCO_1, AB24 IO_L49P_M1DQ10_1, AB26 IO_L49N_M1DQ11_1, AC23 IO_L65P_1, AC24 IO_L65N_1, AC25 IO_L50P_M1UDQS_1, AC26 IO_L50N_M1UDQSN_1, AD24 IO_L48P_HDC_M1DQ8_1, AD25 VCCO_1, AD26 IO_L48N_M1DQ9_1, AE23 IO_L74P_AWAKE_1, AE24 IO_L67P_1, AE25 IO_L52P_M1DQ14_1, AE26 IO_L52N_M1DQ15_1, AF24 IO_L74N_DOUT_BUSY_1, AF25 IO_L67N_1, K18 IO_L32N_A16_M1A9_1, K19 IO_L28N_VREF_1, L17 IO_L32P_A17_M1A8_1, L18 IO_L34N_A12_M1BA2_1, L19 IO_L28P_1, L23 IO_L29P_A23_M1A13_1, L24 IO_L29N_A22_M1A14_1, M18 IO_L36P_A9_M1BA0_1, M19 IO_L34P_A13_M1WE_1, M20 VCCO_1, M21 IO_L40N_GCLK10_M1A6_1, M23 IO_L31P_A19_M1CKE_1, N17 IO_L38P_A5_M1CLK_1, N18 IO_L38N_A4_M1CLKN_1, N19 IO_L36N_A8_M1BA1_1, N20 IO_L40P_GCLK11_M1A5_1, N21 IO_L30N_A20_M1A11_1, N22 IO_L37P_A7_M1A0_1, N23 IO_L37N_A6_M1A1_1, N24 IO_L31N_A18_M1A12_1, P17 IO_L56P_1, P18 IO_L56N_1, P20 IO_L30P_A21_M1RESET_1, P21 IO_L41P_GCLK9_IRDY1_M1RASN_1, P22 IO_L41N_GCLK8_M1CASN_1, P23 VCCO_1, P24 IO_L33P_A15_M1A10_1, P26 IO_L33N_A14_M1A4_1, R17 IO_L58P_1, R18 IO_L58N_1, R19 IO_L57N_1, R20 IO_L57P_1, R21 IO_L55N_1, R22 IO_L55P_1, R23 IO_L39P_M1A3_1, R24 IO_L39N_M1ODT_1, R25 IO_L35P_A11_M1A7_1, R26 IO_L35N_A10_M1A2_1, T18 IO_L60P_1, T19 IO_L60N_1, T20 IO_L64P_1, T22 IO_L59P_1, T23 IO_L53P_1, T24 IO_L46P_FCS_B_M1DQ2_1, T25 VCCO_1, T26 IO_L46N_FOE_B_M1DQ3_1, U17 IO_L62P_1, U18 VCCO_1, U19 IO_L70P_1, U20 IO_L64N_1, U21 IO_L61P_1, U22 IO_L61N_1, U23 IO_L59N_1, U24 IO_L53N_VREF_1, U25 IO_L43P_GCLK5_M1DQ4_1, U26 IO_L43N_GCLK4_M1DQ5_1, V17 IO_L62N_1, V18 IO_L66P_1, V19 IO_L66N_1, V20 IO_L70N_1, V21 VCCO_1, V22 IO_L71P_1, V23 IO_L42P_GCLK7_M1UDM_1, V24 IO_L45P_A1_M1LDQS_1, V26 IO_L45N_A0_M1LDQSN_1, W18 IO_L68P_1, W19 IO_L68N_1, W22 IO_L71N_1, W23 VCCO_1, W24 IO_L42N_GCLK6_TRDY1_M1LDM_1, W25 IO_L44P_A3_M1DQ6_1, W26 IO_L44N_A2_M1DQ7_1, Y20 IO_L72P_1, Y21 IO_L72N_1, Y22 IO_L73P_1, Y24 IO_L47P_FWE_B_M1DQ0_1, Y25 VCCO_1, Y26 IO_L47N_LDC_M1DQ1_1
part C pins: AA9 IO_L61P_2, AA11 IO_L43P_2, AA12 IO_L41P_2, AA13 IO_L34P_2, AA14 IO_L28N_2, AA15 IO_L20N_2, AA17 IO_L10N_2, AA18 IO_L11P_2, AA19 IO_L6N_2, AB9 IO_L61N_VREF_2, AB10 IO_L51N_2, AB11 IO_L43N_2, AB13 IO_L34N_2, AB14 VCCO_2, AB15 IO_L19P_2, AB17 IO_L15P_2, AB18 IO_L11N_2, AC9 IO_L58P_2, AC10 VCCO_2, AC11 IO_L45P_2, AC12 IO_L41N_VREF_2, AC13 IO_L31P_GCLK31_D14_2, AC14 IO_L19N_2, AC15 IO_L16P_2, AC16 IO_L17P_2, AC17 IO_L15N_2, AC18 VCCO_2, AC19 IO_L7P_2, AC20 IO_L5P_2, AC21 VCCO_2, AC22 CMPCS_B_2, AD6 IO_L63P_2, AD8 IO_L53P_2, AD9 IO_L58N_2, AD10 IO_L49P_D3_2, AD11 IO_L45N_2, AD12 IO_L32P_GCLK29_2, AD13 IO_L31N_GCLK30_D15_2, AD14 IO_L29P_GCLK3_2, AD15 IO_L16N_VREF_2, AD16 IO_L13P_M1_2, AD17 IO_L17N_2, AD18 IO_L9P_2, AD19 IO_L7N_2, AD20 IO_L3P_D0_DIN_MISO_MISO1_2, AD21 IO_L5N_2, AD22 IO_L1P_CCLK_2, AE4 IO_L65P_INIT_B_2, AE5 IO_L64P_D8_2, AE7 IO_L62P_D5_2, AE8 VCCO_2, AE9 IO_L48P_D7_2, AE11 IO_L47P_2, AE12 VCCO_2, AE13 IO_L30P_GCLK1_D13_2, AE15 IO_L14P_D11_2, AE16 VCCO_2, AE17 IO_L12P_D1_MISO2_2, AE19 IO_L4P_2, AE20 VCCO_2, AE21 IO_L2P_CMPCLK_2, AF3 PROGRAM_B_2, AF4 IO_L65N_CSO_B_2, AF5 IO_L64N_D9_2, AF6 IO_L63N_2, AF7 IO_L62N_D6_2, AF8 IO_L53N_2, AF9 IO_L48N_RDWR_B_VREF_2, AF10 IO_L49N_D4_2, AF11 IO_L47N_2, AF12 IO_L32N_GCLK28_2, AF13 IO_L30N_GCLK0_USERCCLK_2, AF14 IO_L29N_GCLK2_2, AF15 IO_L14N_D12_2, AF16 IO_L13N_D10_2, AF17 IO_L12N_D2_MISO3_2, AF18 IO_L9N_2, AF19 IO_L4N_VREF_2, AF20 IO_L3N_MOSI_CSI_B_MISO0_2, AF21 IO_L2N_CMPMOSI_2, AF22 IO_L1N_M0_CMPMISO_2, AF23 DONE_2, U12 IO_L50N_2, U13 IO_L50P_2, U15 IO_L42P_2, V11 IO_L52P_2, V12 IO_L46P_2, V13 IO_L44P_2, V14 IO_L42N_2, V15 IO_L18P_2, V16 IO_L8P_2, W11 IO_L52N_2, W12 IO_L46N_2, W13 IO_L33P_2, W14 IO_L44N_2, W16 IO_L18N_2, W17 IO_L8N_2, Y10 IO_L51P_2, Y12 VCCO_2, Y13 IO_L33N_2, Y14 IO_L28P_2, Y15 IO_L20P_2, Y16 IO_L10P_2, Y17 VCCO_2, Y18 IO_L6P_2
part D pins: AA1 IO_L36N_M3DQ9_3, AA2 IO_L36P_M3DQ8_3, AA3 IO_L20N_3, AA4 IO_L20P_3, AA5 IO_L16P_3, AA7 IO_L7P_3, AA8 IO_L4P_3, AB1 IO_L32N_M3DQ15_3, AB3 IO_L32P_M3DQ14_3, AB4 IO_L18P_3, AB5 IO_L16N_3, AB6 IO_L8N_3, AB7 IO_L8P_3, AB8 IO_L4N_3, AC1 IO_L34N_M3UDQSN_3, AC2 IO_L34P_M3UDQS_3, AC3 IO_L18N_3, AC4 IO_L3P_3, AC5 IO_L10P_3, AC6 VCCO_3, AC7 IO_L1P_3, AD1 IO_L33N_M3DQ13_3, AD2 VCCO_3, AD3 IO_L33P_M3DQ12_3, AD4 IO_L3N_3, AD5 IO_L10N_3, AD7 IO_L1N_VREF_3, AE1 IO_L35N_M3DQ11_3, AE2 IO_L35P_M3DQ10_3, AE3 IO_L2P_3, AF2 IO_L2N_3, L3 IO_L54N_M3A11_3, L4 IO_L54P_M3RESET_3, L6 IO_L57N_VREF_3, L7 IO_L57P_3, M4 IO_L55N_M3A14_3, M6 IO_L55P_M3A13_3, M7 VCCO_3, M8 IO_L53N_M3A12_3, M9 IO_L53P_M3CKE_3, M10 IO_L51P_M3A10_3, N3 IO_L52N_M3A9_3, N4 IO_L52P_M3A8_3, N5 IO_L50N_M3BA2_3, N6 IO_L47N_M3A1_3, N7 IO_L47P_M3A0_3, N8 IO_L43P_GCLK23_M3RASN_3, N9 IO_L51N_M3A4_3, P1 IO_L48N_M3BA1_3, P3 IO_L48P_M3BA0_3, P4 VCCO_3, P5 IO_L50P_M3WE_3, P6 IO_L45N_M3ODT_3, P7 IO_L45P_M3A3_3, P8 IO_L43N_GCLK22_IRDY2_M3CASN_3, P9 VCCO_3, P10 IO_L49P_M3A7_3, R1 IO_L44N_GCLK20_M3A6_3, R2 IO_L44P_GCLK21_M3A5_3, R3 IO_L46N_M3CLKN_3, R4 IO_L46P_M3CLK_3, R5 IO_L30P_3, R6 IO_L31N_VREF_3, R7 IO_L31P_3, R9 IO_L49N_M3A2_3, R10 IO_L27P_3, T1 IO_L41N_GCLK26_M3DQ5_3, T2 VCCO_3, T3 IO_L41P_GCLK27_M3DQ4_3, T4 IO_L30N_3, T6 IO_L29N_3, T7 VCCO_3, T8 IO_L29P_3, T9 IO_L27N_3, T10 IO_L25P_3, U1 IO_L40N_M3DQ7_3, U2 IO_L40P_M3DQ6_3, U3 IO_L28N_3, U4 IO_L28P_3, U5 IO_L24P_3, U7 IO_L23N_3, U8 IO_L23P_3, U9 IO_L25N_3, V1 IO_L39N_M3LDQSN_3, V3 IO_L39P_M3LDQS_3, V4 IO_L42P_GCLK25_TRDY2_M3UDM_3, V5 IO_L24N_3, V6 IO_L17N_VREF_3, V7 IO_L17P_3, V8 IO_L19N_3, V10 IO_L21N_3, W1 IO_L38N_M3DQ3_3, W2 IO_L38P_M3DQ2_3, W3 IO_L42N_GCLK24_M3LDM_3, W4 VCCO_3, W5 IO_L22P_3, W6 VCCO_3, W7 IO_L15N_3, W8 IO_L15P_3, W9 IO_L19P_3, W10 IO_L21P_3, Y1 IO_L37N_M3DQ1_3, Y2 VCCO_3, Y3 IO_L37P_M3DQ0_3, Y5 IO_L22N_3, Y6 IO_L7N_3, Y8 IO_L9N_3, Y9 IO_L9P_3
part E pins: B1 IO_L81N_M4A11_4, B2 IO_L81P_M4RESET_4, C1 IO_L79N_M4A9_4, C2 IO_L79P_M4A8_4, C3 IO_L83N_VREF_4, C4 IO_L83P_4, D1 IO_L68N_M4DQ5_4, D2 VCCO_4, D3 IO_L68P_M4DQ4_4, E1 IO_L67N_M4DQ7_4, E2 IO_L67P_M4DQ6_4, E3 IO_L77N_M4BA2_4, E4 IO_L77P_M4WE_4, E5 IO_L80N_M4A12_4, F1 IO_L66N_M4LDQSN_4, F3 IO_L66P_M4LDQS_4, F4 VCCO_4, F5 IO_L80P_M4CKE_4, G1 IO_L65N_M4DQ3_4, G2 IO_L65P_M4DQ2_4, G3 IO_L73N_M4CLKN_4, G4 IO_L73P_M4CLK_4, G5 IO_L78N_M4A4_4, G6 IO_L78P_M4A10_4, G7 IO_L82N_M4A14_4, H1 IO_L64N_M4DQ1_4, H2 VCCO_4, H3 IO_L64P_M4DQ0_4, H5 IO_L75N_M4BA1_4, H6 IO_L75P_M4BA0_4, H7 IO_L72N_M4ODT_4, H8 IO_L82P_M4A13_4, J1 IO_L63N_M4DQ9_4, J2 IO_L63P_M4DQ8_4, J3 IO_L69N_M4LDM_4, J4 IO_L69P_M4UDM_4, J5 IO_L71N_M4A6_4, J6 VCCO_4, J7 IO_L72P_M4A3_4, J10 IO_L76P_M4A7_4, K1 IO_L62N_M4DQ11_4, K3 IO_L62P_M4DQ10_4, K4 VCCO_4, K5 IO_L71P_M4A5_4, K6 IO_L70N_M4CASN_4, K7 IO_L70P_M4RASN_4, K8 IO_L58P_4, K9 IO_L76N_M4A2_4, K10 IO_L74P_M4A0_4, L1 IO_L61N_M4UDQSN_4, L2 IO_L61P_M4UDQS_4, L8 IO_L58N_VREF_4, L9 IO_L74N_M4A1_4, M1 IO_L60N_M4DQ13_4, M2 VCCO_4, M3 IO_L60P_M4DQ12_4, N1 IO_L59N_M4DQ15_4, N2 IO_L59P_M4DQ14_4
part F pins: A23 IO_L1N_A24_VREF_5, A25 IO_L10N_M5A1_5, B23 IO_L1P_A25_5, B24 IO_L10P_M5A0_5, B25 IO_L12P_M5A3_5, B26 IO_L12N_M5ODT_5, C24 IO_L3N_M5A11_5, C25 IO_L11P_M5CLK_5, C26 IO_L11N_M5CLKN_5, D22 IO_L4N_M5A12_5, D23 IO_L3P_M5RESET_5, D24 IO_L17P_M5DQ6_5, D25 VCCO_5, D26 IO_L17N_M5DQ7_5, E23 IO_L7P_M5WE_5, E24 IO_L7N_M5BA2_5, E25 IO_L16P_M5DQ4_5, E26 IO_L16N_M5DQ5_5, F22 IO_L4P_M5CKE_5, F23 VCCO_5, F24 IO_L18P_M5LDQS_5, F26 IO_L18N_M5LDQSN_5, G19 IO_L9N_M5BA1_5, G20 IO_L2P_M5A13_5, G21 IO_L2N_M5A14_5, G22 IO_L6N_M5A4_5, G23 IO_L8P_M5A7_5, G24 IO_L8N_M5A2_5, G25 IO_L20P_M5DQ0_5, G26 IO_L20N_M5DQ1_5, H18 IO_L9P_M5BA0_5, H19 IO_L27P_5, H20 IO_L5P_M5A8_5, H21 IO_L5N_M5A9_5, H22 IO_L6P_M5A10_5, H24 IO_L19P_M5DQ2_5, H25 VCCO_5, H26 IO_L19N_M5DQ3_5, J20 IO_L27N_5, J21 VCCO_5, J22 IO_L14N_M5CASN_5, J23 IO_L15P_M5UDM_5, J24 IO_L15N_M5LDM_5, J25 IO_L22P_M5DQ10_5, J26 IO_L22N_M5DQ11_5, K20 IO_L13P_M5A5_5, K21 IO_L13N_M5A6_5, K22 IO_L14P_M5RASN_5, K23 VCCO_5, K24 IO_L21P_M5DQ8_5, K26 IO_L21N_M5DQ9_5, L20 IO_L26P_5, L21 IO_L26N_VREF_5, L25 IO_L24P_M5DQ12_5, L26 IO_L24N_M5DQ13_5, M24 IO_L23P_M5UDQS_5, M25 VCCO_5, M26 IO_L23N_M5UDQSN_5, N25 IO_L25P_M5DQ14_5, N26 IO_L25N_M5DQ15_5
part G pins: A24 TDO, AA20 RFUSE, AB19 VFS, AD23 SUSPEND, C23 TMS, E21 TCK, F20 TDI, W21 VBATT
part H pins: A1 GND, A26 GND, AB2 GND, AB12 GND, AB16 GND, AB20 GND, AB25 GND, AC8 GND, AE6 GND, AE10 GND, AE14 GND, AE18 GND, AE22 GND, AF1 GND, AF26 GND, B5 GND, B9 GND, B13 GND, B17 GND, B21 GND, D4 GND, E7 GND, E11 GND, E15 GND, E22 GND, F2 GND, F19 GND, F25 GND, H4 GND, H11 GND, H23 GND, J8 GND, J19 GND, K2 GND, K16 GND, K25 GND, L11 GND, L13 GND, L15 GND, M5 GND, M12 GND, M14 GND, M16 GND, M22 GND, N11 GND, N13 GND, N15 GND, P2 GND, P12 GND, P14 GND, P16 GND, P19 GND, P25 GND, R8 GND, R11 GND, R13 GND, R15 GND, T5 GND, T12 GND, T14 GND, T16 GND, T21 GND, U11 GND, V2 GND, V25 GND, W15 GND, W20 GND, Y4 GND, Y7 GND, Y11 GND, Y23 GND
part I pins: AA6 VCCAUX, AA10 VCCAUX, AA16 VCCAUX, AA21 VCCAUX, F6 VCCAUX, F21 VCCAUX, G12 VCCAUX, G15 VCCAUX, J9 VCCAUX, J18 VCCAUX, K11 VCCINT, K13 VCCAUX, K17 VCCINT, L5 VCCAUX, L10 VCCINT, L12 VCCINT, L14 VCCINT, L16 VCCINT, L22 VCCAUX, M11 VCCINT, M13 VCCINT, M15 VCCINT, M17 VCCAUX, N10 VCCAUX, N12 VCCINT, N14 VCCINT, N16 VCCINT, P11 VCCINT, P13 VCCINT, P15 VCCINT, R12 VCCINT, R14 VCCINT, R16 VCCINT, T11 VCCINT, T13 VCCINT, T15 VCCINT, T17 VCCINT, U6 VCCAUX, U10 VCCINT, U14 VCCAUX, U16 VCCINT, V9 VCCAUX, Y19 VCCAUX
part J pins: E12 NC, F8 NC, F12 NC, F14 NC, G9 NC, G11 NC, G13 NC, H9 NC, H10 NC, H12 NC, H13 NC, J11 NC, J12 NC, J13 NC, J16 NC, K12 NC, K14 NC, K15 NC
part A text: BANK 0
part B text: BANK 1
part C text: BANK 2
part D text: BANK 3
part E text: BANK 4
part F text: BANK 5

## G5V-1-DC5
designator K?  (value not drawn)
General Purpose Relay SPDT _1 Form C_ Through Hole; MF: Omron Electronics; Value: SPDT Relay; Package: None; Price: None; MP: G5V-1-DC5; Availability: Unavailable; SnapEDA_Link: https://www.snapeda.com/parts/G5V-1-DC5/Omron%20Electronics%20Inc-EMC%20Div/view-part/125140/?ref=snap; HelpURL: https://omronfs.omron.com/en_US/ecb/products/pdf/en-g5v_1.pdf; Supplier Part Number: Z773-ND; Mfg Part Number: G5V-1-DC5
footprint RELAY_G5V-1-DC5
pins: 1 NC, 2 C1, 5 COM, 6 COM, 9 C2, 10 NO

## HDSP-4836_LED-BAR
designator D?, comment HDSP-4836  value RYG LED indicator
LED Circuit Board Indicator Bar - 10 Wide, DIP Green (x 2), Red (x 4), Yellow (x 4) 2.1V Green, 2.1V Red, 2.2V Yellow 30mA Green, 30mA Red, 20mA Yellow Through Hole; Voltage: 1.8V; Current: 2mA; Mfg: ROHM Semiconductor; Power: 44mW; HelpURL: https://media.digikey.com/pdf/Data%20Sheets/Avago%20PDFs/HDSP-4830_40_50_32_36_HLCP-J100.pdf; CreatedBy: Laurent Colas; Temperature: -30°C to 85°C; Package: TH; Precision: *; Mfg Part Number: HDSP-4836; Supplier 1: Digikey; Supplier Part Number: 516-1237-5-ND
footprint HDSP-4836 (LED BAR)
pins: 1, 2, 3, 4, 5, 6, 7, 8, 9, 10, 11, 12, 13, 14, 15, 16, 17, 18, 19, 20

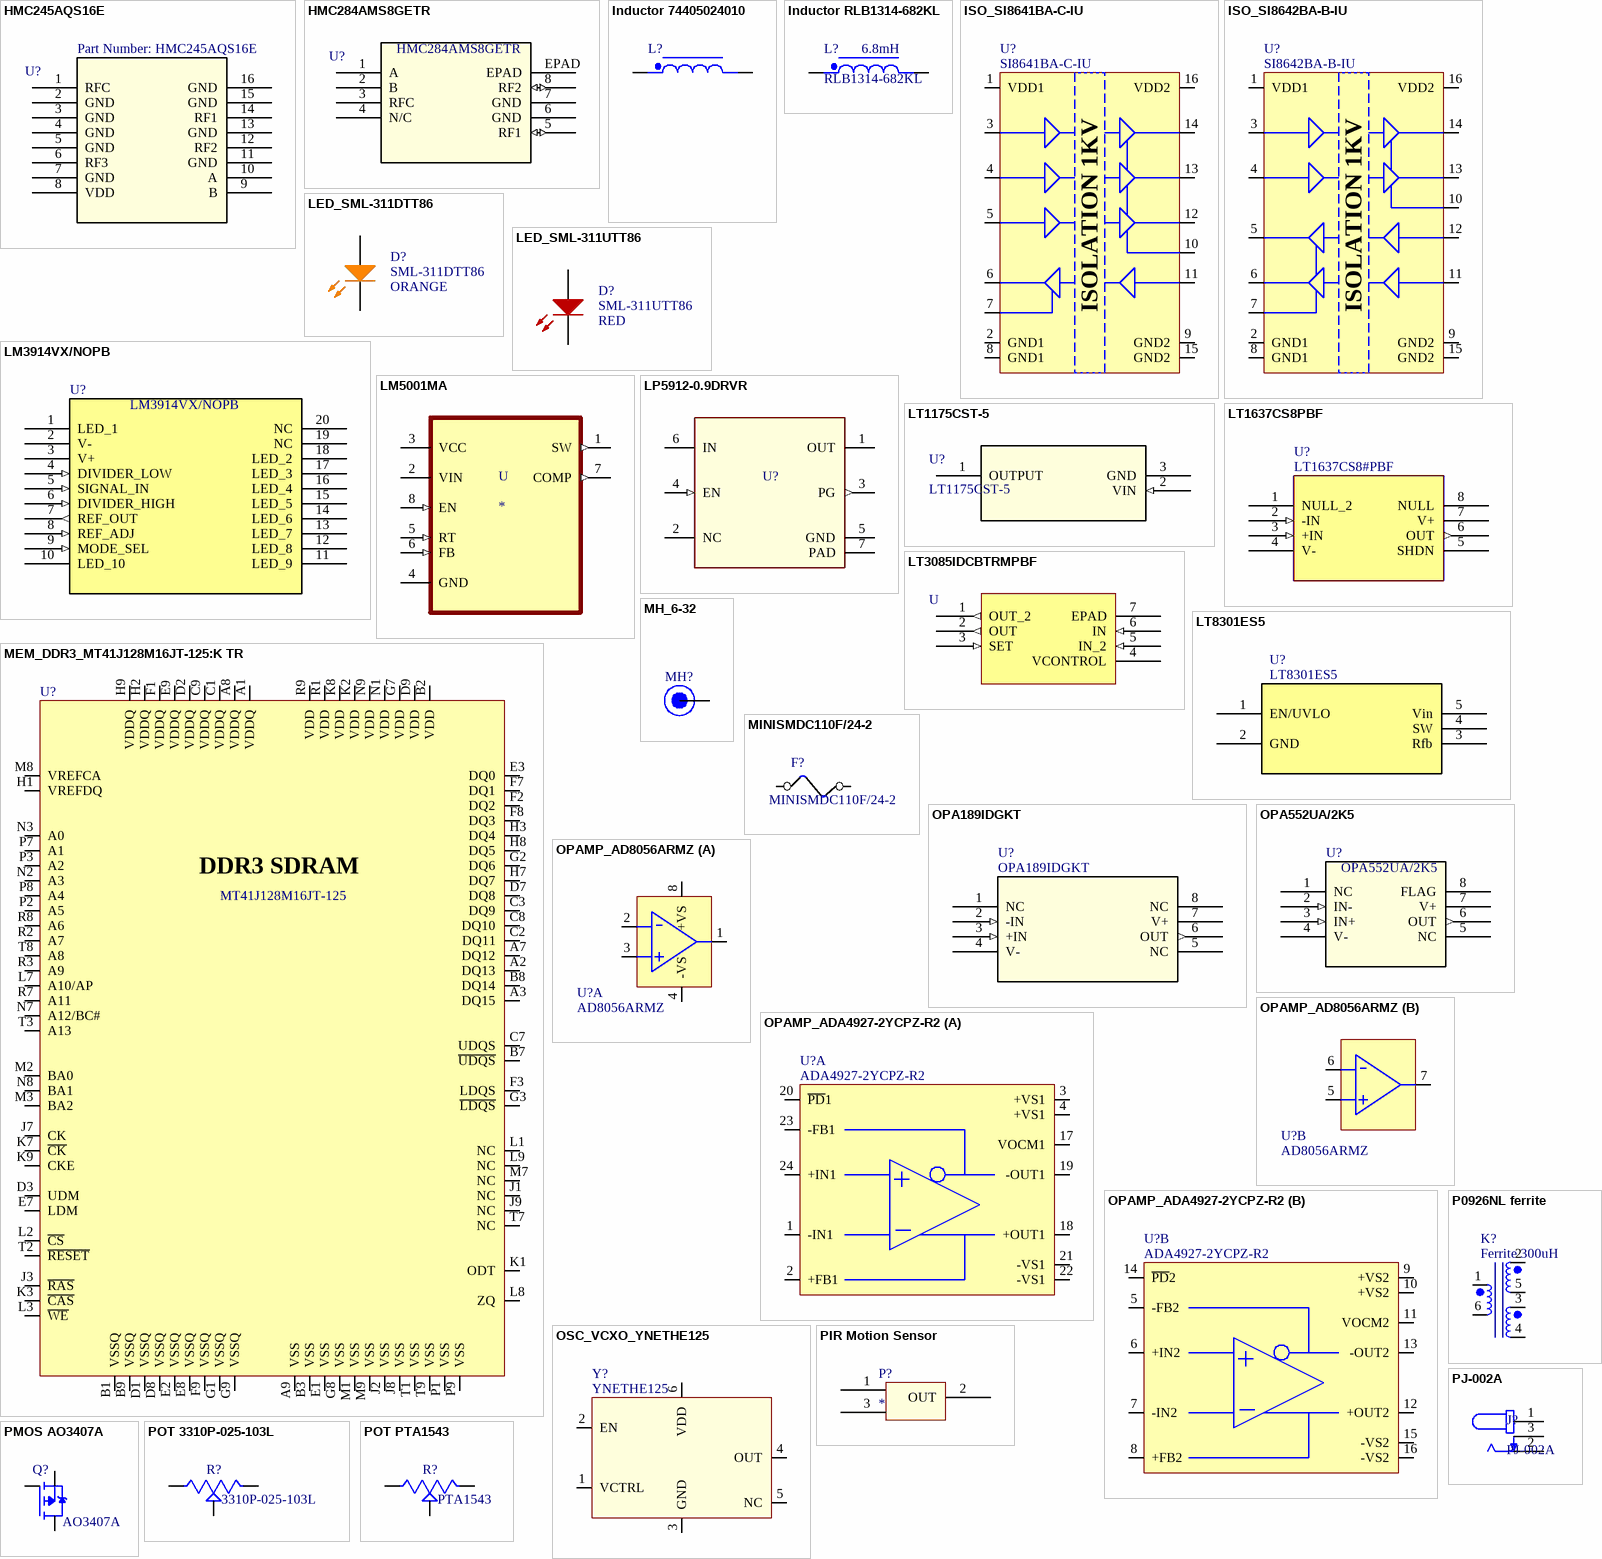
[diagram p4: symbols HMC245AQS16E to POT PTA1543]

## HMC245AQS16E
designator U?, comment Part Number: HMC245AQS16E
IC RF SWITCH SP3T 3.5GHZ 16QSOP; Vendor: Analog Devices Inc; Built_By: Analog Devices Inc.; SourceLibrary: Analog_2017-10-24; Manufacturer_Part_Number: HMC245AQS16E; Copyright: Copyright (C) 2018 Accelerated Designs. All rights reserved; RefDes: RefDes; Type: DEV; Value: Value; HelpURL: https://www.analog.com/media/en/technical-documentation/data-sheets/HMC245AQS16E.pdf; Package: 16 Lead QSOP SMT
footprint HRQ_16_1_ADI-M
pins: 1 RFC, 2 GND, 3 GND, 4 GND, 5 GND, 6 RF3, 7 GND, 8 VDD, 9 B, 10 A, 11 GND, 12 RF2, 13 GND, 14 RF1, 15 GND, 16 GND